# Altium schematic symbol library MCU_ST_STM32U5.SchLib: 162 symbols (part 2 of 5)
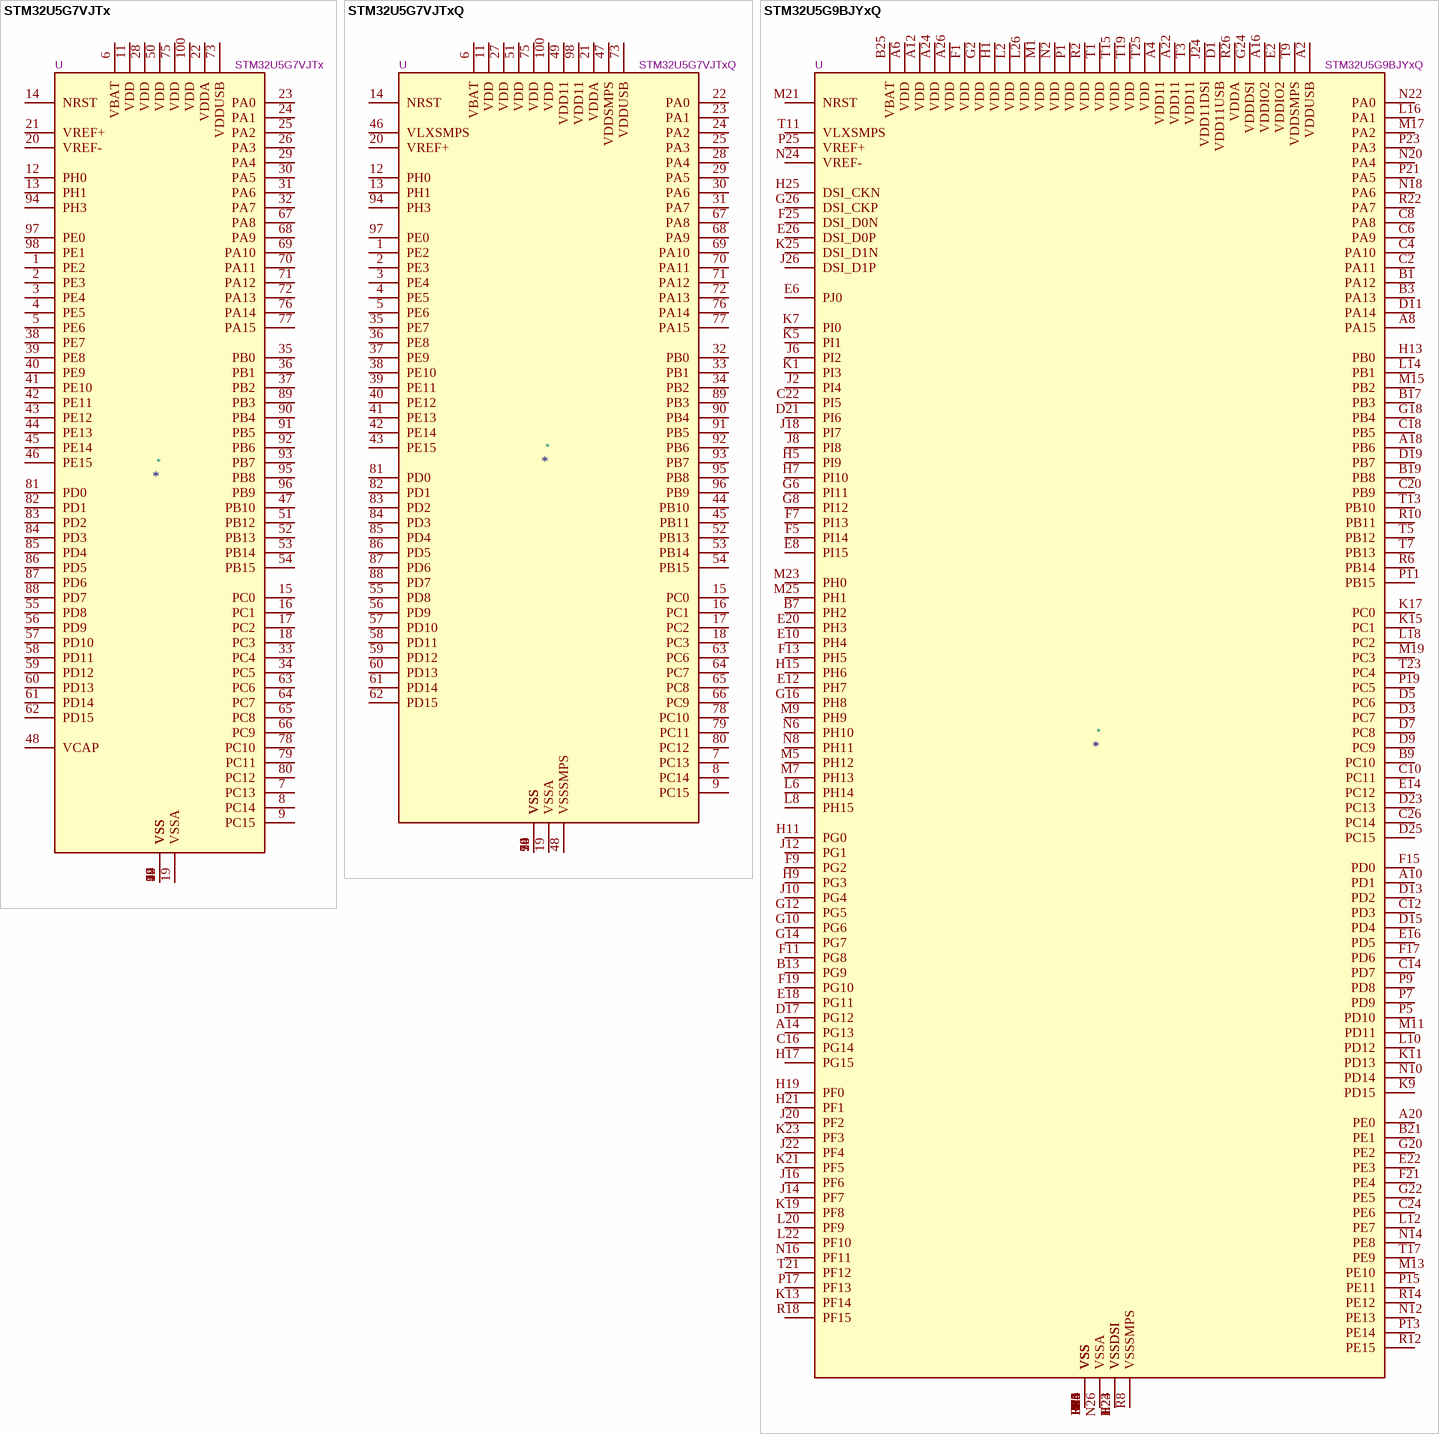
[diagram p41: symbols STM32U5G7VJTx to STM32U5G9BJYxQ]

## STM32U5G7VJTx
designator *  value STM32U5G7VJTx  Reference: U
STMicroelectronics Arm Cortex-M33 MCU, 4096KB flash, 3026KB RAM, 82 GPIO, LQFP100; ki_keywords: Arm Cortex-M33 STM32U5 STM32U5F7/5G7; ki_fp_filters: LQFP*14x14mm*P0.5mm*; Footprint: Package_QFP:LQFP-100_14x14mm_P0.5mm; Datasheet: https://www.st.com/resource/en/datasheet/stm32u5g7vj.pdf; Description_: STMicroelectronics Arm Cortex-M33 MCU, 4096KB flash, 3026KB RAM, 82 GPIO, LQFP100
pins: 1 PE2, 2 PE3, 3 PE4, 4 PE5, 5 PE6, 6 VBAT, 7 PC13, 8 PC14, 9 PC15, 10 VSS, 11 VDD, 12 PH0, 13 PH1, 14 NRST, 15 PC0, 16 PC1, 17 PC2, 18 PC3, 19 VSSA, 20 VREF-, 21 VREF+, 22 VDDA, 23 PA0, 24 PA1, 25 PA2, 26 PA3, 27 VSS, 28 VDD, 29 PA4, 30 PA5, 31 PA6, 32 PA7, 33 PC4, 34 PC5, 35 PB0, 36 PB1, 37 PB2, 38 PE7, 39 PE8, 40 PE9, 41 PE10, 42 PE11, 43 PE12, 44 PE13, 45 PE14, 46 PE15, 47 PB10, 48 VCAP, 49 VSS, 50 VDD, 51 PB12, 52 PB13, 53 PB14, 54 PB15, 55 PD8, 56 PD9, 57 PD10, 58 PD11, 59 PD12, 60 PD13, 61 PD14, 62 PD15, 63 PC6, 64 PC7, 65 PC8, 66 PC9, 67 PA8, 68 PA9, 69 PA10, 70 PA11, 71 PA12, 72 PA13, 73 VDDUSB, 74 VSS, 75 VDD, 76 PA14, 77 PA15, 78 PC10, 79 PC11, 80 PC12, 81 PD0, 82 PD1, 83 PD2, 84 PD3, 85 PD4, 86 PD5, 87 PD6, 88 PD7, 89 PB3, 90 PB4, 91 PB5, 92 PB6, 93 PB7, 94 PH3, 95 PB8, 96 PB9, 97 PE0, 98 PE1, 99 VSS, 100 VDD

## STM32U5G7VJTxQ
designator *  value STM32U5G7VJTxQ  Reference: U
STMicroelectronics Arm Cortex-M33 MCU, 4096KB flash, 3026KB RAM, 79 GPIO, LQFP100; ki_keywords: Arm Cortex-M33 STM32U5 STM32U5F7/5G7; ki_fp_filters: LQFP*14x14mm*P0.5mm*; Footprint: Package_QFP:LQFP-100_14x14mm_P0.5mm; Datasheet: https://www.st.com/resource/en/datasheet/stm32u5g7vj.pdf; Description_: STMicroelectronics Arm Cortex-M33 MCU, 4096KB flash, 3026KB RAM, 79 GPIO, LQFP100
pins: 1 PE2, 2 PE3, 3 PE4, 4 PE5, 5 PE6, 6 VBAT, 7 PC13, 8 PC14, 9 PC15, 10 VSS, 11 VDD, 12 PH0, 13 PH1, 14 NRST, 15 PC0, 16 PC1, 17 PC2, 18 PC3, 19 VSSA, 20 VREF+, 21 VDDA, 22 PA0, 23 PA1, 24 PA2, 25 PA3, 26 VSS, 27 VDD, 28 PA4, 29 PA5, 30 PA6, 31 PA7, 32 PB0, 33 PB1, 34 PB2, 35 PE7, 36 PE8, 37 PE9, 38 PE10, 39 PE11, 40 PE12, 41 PE13, 42 PE14, 43 PE15, 44 PB10, 45 PB11, 46 VLXSMPS, 47 VDDSMPS, 48 VSSSMPS, 49 VDD11, 50 VSS, 51 VDD, 52 PB13, 53 PB14, 54 PB15, 55 PD8, 56 PD9, 57 PD10, 58 PD11, 59 PD12, 60 PD13, 61 PD14, 62 PD15, 63 PC6, 64 PC7, 65 PC8, 66 PC9, 67 PA8, 68 PA9, 69 PA10, 70 PA11, 71 PA12, 72 PA13, 73 VDDUSB, 74 VSS, 75 VDD, 76 PA14, 77 PA15, 78 PC10, 79 PC11, 80 PC12, 81 PD0, 82 PD1, 83 PD2, 84 PD3, 85 PD4, 86 PD5, 87 PD6, 88 PD7, 89 PB3, 90 PB4, 91 PB5, 92 PB6, 93 PB7, 94 PH3, 95 PB8, 96 PB9, 97 PE0, 98 VDD11, 99 VSS, 100 VDD

## STM32U5G9BJYxQ
designator *  value STM32U5G9BJYxQ  Reference: U
STMicroelectronics Arm Cortex-M33 MCU, 4096KB flash, 3026KB RAM, 145 GPIO, WLCSP208; ki_keywords: Arm Cortex-M33 STM32U5 STM32U5F9/5G9; ki_fp_filters: ST*WLCSP*5.8x5.6mm*Layout26x16*P0.35mm*Stagger*; Footprint: Package_CSP:ST_WLCSP-208_5.8x5.6mm_Layout26x16_P0.35mm_Stagger; Datasheet: https://www.st.com/resource/en/datasheet/stm32u5g9bj.pdf; Description_: STMicroelectronics Arm Cortex-M33 MCU, 4096KB flash, 3026KB RAM, 145 GPIO, WLCSP208
pins: A2 VDDUSB, A4 VDD11, A6 VDD, A8 PA15, A10 PD1, A12 VDD, A14 PG13, A16 VDDIO2, A18 PB6, A20 PE0, A22 VDD11, A24 VDD, A26 VDD, B1 PA12, B3 PA13, B5 VSS, B7 PH2, B9 PC10, B11 VSS, B13 PG9, B15 VSS, B17 PB3, B19 PB8, B21 PE1, B23 VSS, B25 VBAT, C2 PA11, C4 PA10, C6 PA9, C8 PA8, C10 PC11, C12 PD3, C14 PD7, C16 PG14, C18 PB5, C20 PB9, C22 PI5, C24 PE6, C26 PC14, D1 VDD11USB, D3 PC7, D5 PC6, D7 PC8, D9 PC9, D11 PA14, D13 PD2, D15 PD4, D17 PG12, D19 PB7, D21 PI6, D23 PC13, D25 PC15, E2 VDDIO2, E4 VSS, E6 PJ0, E8 PI15, E10 PH4, E12 PH7, E14 PC12, E16 PD5, E18 PG11, E20 PH3, E22 PE3, E24 VSSDSI, E26 DSI_D0P, F1 VDD, F3 VSS, F5 PI14, F7 PI13, F9 PG2, F11 PG8, F13 PH5, F15 PD0, F17 PD6, F19 PG10, F21 PE4, F23 VSSDSI, F25 DSI_D0N, G2 VDD, G4 VSS, G6 PI11, G8 PI12, G10 PG6, G12 PG5, G14 PG7, G16 PH8, G18 PB4, G20 PE2, G22 PE5, G24 VDDDSI, G26 DSI_CKP, H1 VDD, H3 VSS, H5 PI9, H7 PI10, H9 PG3, H11 PG0, H13 PB0, H15 PH6, H17 PG15, H19 PF0, H21 PF1, H23 VSSDSI, H25 DSI_CKN, J2 PI4, J4 VSS, J6 PI2, J8 PI8, J10 PG4, J12 PG1, J14 PF7, J16 PF6, J18 PI7, J20 PF2, J22 PF4, J24 VDD11DSI, J26 DSI_D1P, K1 PI3, K3 VSS, K5 PI1, K7 PI0, K9 PD15, K11 PD13, K13 PF14, K15 PC1, K17 PC0, K19 PF8, K21 PF5, K23 PF3, K25 DSI_D1N, L2 VDD, L4 VSS, L6 PH14, L8 PH15, L10 PD12, L12 PE7, L14 PB1, L16 PA1, L18 PC2, L20 PF9, L22 PF10, L24 VSS, L26 VDD, M1 VDD, M3 VSS, M5 PH12, M7 PH13, M9 PH9, M11 PD11, M13 PE10, M15 PB2, M17 PA2, M19 PC3, M21 NRST, M23 PH0, M25 PH1, N2 VDD, N4 VSS, N6 PH10, N8 PH11, N10 PD14, N12 PE13, N14 PE8, N16 PF11, N18 PA6, N20 PA4, N22 PA0, N24 VREF-, N26 VSSA, P1 VDD, P3 VSS, P5 PD10, P7 PD9, P9 PD8, P11 PB15, P13 PE14, P15 PE11, P17 PF13, P19 PC5, P21 PA5, P23 PA3, P25 VREF+, R2 VDD, R4 VSS, R6 PB14, R8 VSSSMPS, R10 PB11, R12 PE15, R14 PE12, R16 VSS, R18 PF15, R20 VSS, R22 PA7, R24 VSS, R26 VDDA, T1 VDD, T3 VDD11, T5 PB12, T7 PB13, T9 VDDSMPS, T11 VLXSMPS, T13 PB10, T15 VDD, T17 PE9, T19 VDD, T21 PF12, T23 PC4, T25 VDD

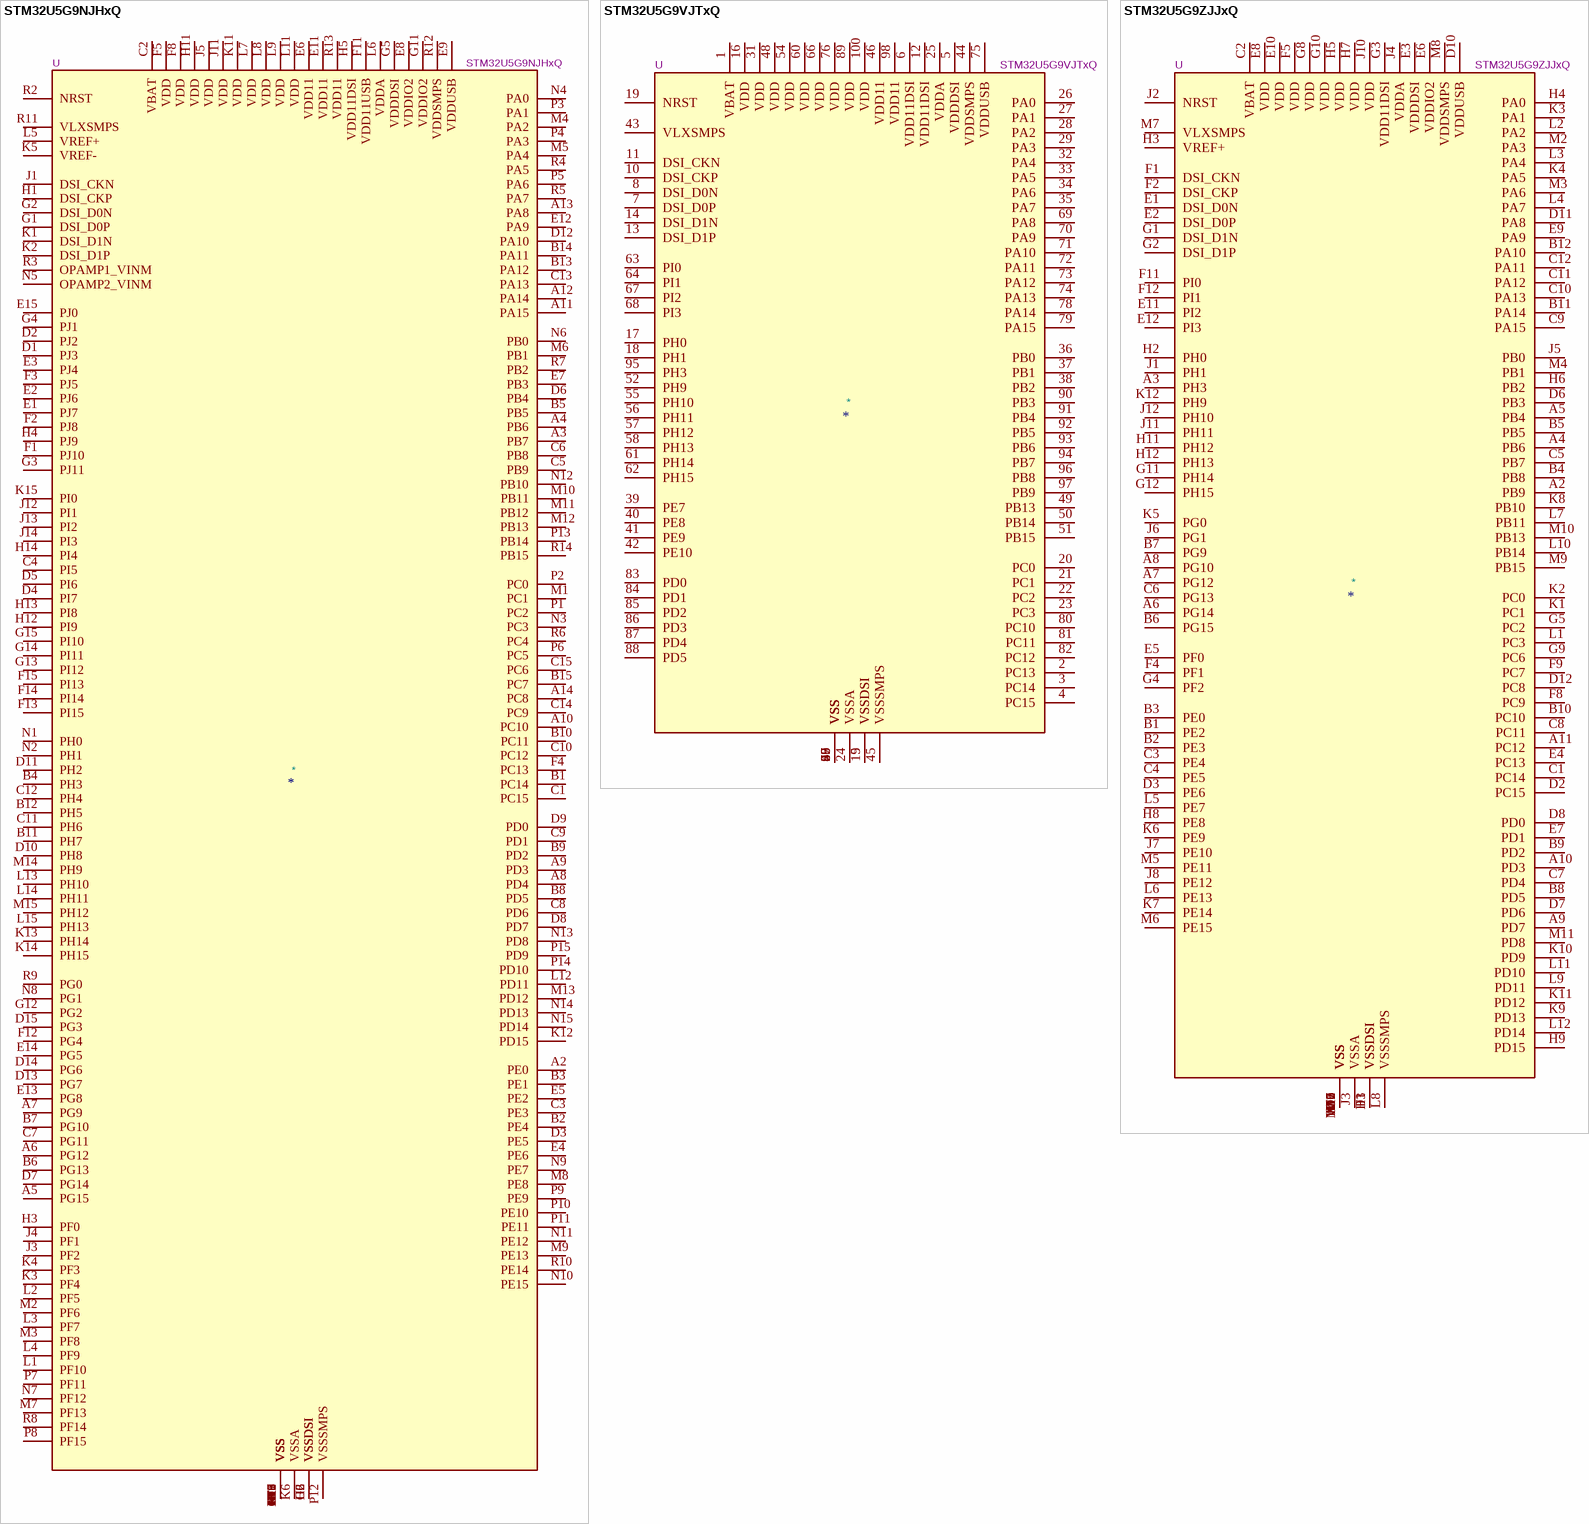
[diagram p11: symbols STM32U5G9NJHxQ to STM32U5G9ZJJxQ]

## STM32U5G9NJHxQ
designator *  value STM32U5G9NJHxQ  Reference: U
STMicroelectronics Arm Cortex-M33 MCU, 4096KB flash, 3026KB RAM, 156 GPIO, TFBGA216; ki_keywords: Arm Cortex-M33 STM32U5 STM32U5F9/5G9; ki_fp_filters: TFBGA*13x13mm*Layout15x15*P0.8mm*; Footprint: Package_BGA:TFBGA-216_13x13mm_Layout15x15_P0.8mm; Datasheet: https://www.st.com/resource/en/datasheet/stm32u5g9nj.pdf; Description_: STMicroelectronics Arm Cortex-M33 MCU, 4096KB flash, 3026KB RAM, 156 GPIO, TFBGA216
pins: A1 VSS, A2 PE0, A3 PB7, A4 PB6, A5 PG15, A6 PG12, A7 PG9, A8 PD4, A9 PD3, A10 PC10, A11 PA15, A12 PA14, A13 PA8, A14 PC8, A15 VSS, B1 PC14, B2 PE4, B3 PE1, B4 PH3, B5 PB5, B6 PG13, B7 PG10, B8 PD5, B9 PD2, B10 PC11, B11 PH7, B12 PH5, B13 PA12, B14 PA11, B15 PC7, C1 PC15, C2 VBAT, C3 PE3, C4 PI5, C5 PB9, C6 PB8, C7 PG11, C8 PD6, C9 PD1, C10 PC12, C11 PH6, C12 PH4, C13 PA13, C14 PC9, C15 PC6, D1 PJ3, D2 PJ2, D3 PE5, D4 PI7, D5 PI6, D6 PB4, D7 PG14, D8 PD7, D9 PD0, D10 PH8, D11 PH2, D12 PA10, D13 PG7, D14 PG6, D15 PG3, E1 PJ7, E2 PJ6, E3 PJ4, E4 PE6, E5 PE2, E6 VDD11, E7 PB3, E8 VDDIO2, E9 VDDUSB, E10 VSS, E11 VDD11, E12 PA9, E13 PG8, E14 PG5, E15 PJ0, F1 PJ10, F2 PJ8, F3 PJ5, F4 PC13, F5 VDD, F6 VSS, F7 VSS, F8 VDD, F9 VSS, F10 VSS, F11 VDD11USB, F12 PG4, F13 PI15, F14 PI14, F15 PI13, G1 DSI_D0P, G2 DSI_D0N, G3 PJ11, G4 PJ1, G5 VDDDSI, G6 VSSDSI, G10 VSS, G11 VDDIO2, G12 PG2, G13 PI12, G14 PI11, G15 PI10, H1 DSI_CKP, H2 VSSDSI, H3 PF0, H4 PJ9, H5 VDD11DSI, H6 VSSDSI, H10 VSS, H11 VDD, H12 PI9, H13 PI8, H14 PI4, H15 VSS, J1 DSI_CKN, J2 VSSDSI, J3 PF2, J4 PF1, J5 VDD, J6 VSS, J10 VSS, J11 VDD, J12 PI1, J13 PI2, J14 PI3, J15 VSS, K1 DSI_D1N, K2 DSI_D1P, K3 PF4, K4 PF3, K5 VREF-, K6 VSSA, K7 VSS, K8 VSS, K9 VSS, K10 VSS, K11 VDD, K12 PD15, K13 PH14, K14 PH15, K15 PI0, L1 PF10, L2 PF5, L3 PF7, L4 PF9, L5 VREF+, L6 VDDA, L7 VDD, L8 VDD, L9 VDD, L10 VSS, L11 VDD, L12 PD11, L13 PH10, L14 PH11, L15 PH13, M1 PC1, M2 PF6, M3 PF8, M4 PA2, M5 PA4, M6 PB1, M7 PF13, M8 PE8, M9 PE13, M10 PB11, M11 PB12, M12 PB13, M13 PD12, M14 PH9, M15 PH12, N1 PH0, N2 PH1, N3 PC3, N4 PA0, N5 OPAMP2_VINM, N6 PB0, N7 PF12, N8 PG1, N9 PE7, N10 PE15, N11 PE12, N12 PB10, N13 PD8, N14 PD13, N15 PD14, P1 PC2, P2 PC0, P3 PA1, P4 PA3, P5 PA6, P6 PC5, P7 PF11, P8 PF15, P9 PE9, P10 PE10, P11 PE11, P12 VSSSMPS, P13 PB14, P14 PD10, P15 PD9, R1 VSS, R2 NRST, R3 OPAMP1_VINM, R4 PA5, R5 PA7, R6 PC4, R7 PB2, R8 PF14, R9 PG0, R10 PE14, R11 VLXSMPS, R12 VDDSMPS, R13 VDD11, R14 PB15, R15 VSS

## STM32U5G9VJTxQ
designator *  value STM32U5G9VJTxQ  Reference: U
STMicroelectronics Arm Cortex-M33 MCU, 4096KB flash, 3026KB RAM, 63 GPIO, LQFP100; ki_keywords: Arm Cortex-M33 STM32U5 STM32U5F9/5G9; ki_fp_filters: LQFP*14x14mm*P0.5mm*; Footprint: Package_QFP:LQFP-100_14x14mm_P0.5mm; Datasheet: https://www.st.com/resource/en/datasheet/stm32u5g9vj.pdf; Description_: STMicroelectronics Arm Cortex-M33 MCU, 4096KB flash, 3026KB RAM, 63 GPIO, LQFP100
pins: 1 VBAT, 2 PC13, 3 PC14, 4 PC15, 5 VDDDSI, 6 VDD11DSI, 7 DSI_D0P, 8 DSI_D0N, 9 VSSDSI, 10 DSI_CKP, 11 DSI_CKN, 12 VDD11DSI, 13 DSI_D1P, 14 DSI_D1N, 15 VSSDSI, 16 VDD, 17 PH0, 18 PH1, 19 NRST, 20 PC0, 21 PC1, 22 PC2, 23 PC3, 24 VSSA, 25 VDDA, 26 PA0, 27 PA1, 28 PA2, 29 PA3, 30 VSS, 31 VDD, 32 PA4, 33 PA5, 34 PA6, 35 PA7, 36 PB0, 37 PB1, 38 PB2, 39 PE7, 40 PE8, 41 PE9, 42 PE10, 43 VLXSMPS, 44 VDDSMPS, 45 VSSSMPS, 46 VDD11, 47 VSS, 48 VDD, 49 PB13, 50 PB14, 51 PB15, 52 PH9, 53 VSS, 54 VDD, 55 PH10, 56 PH11, 57 PH12, 58 PH13, 59 VSS, 60 VDD, 61 PH14, 62 PH15, 63 PI0, 64 PI1, 65 VSS, 66 VDD, 67 PI2, 68 PI3, 69 PA8, 70 PA9, 71 PA10, 72 PA11, 73 PA12, 74 PA13, 75 VDDUSB, 76 VDD, 77 VSS, 78 PA14, 79 PA15, 80 PC10, 81 PC11, 82 PC12, 83 PD0, 84 PD1, 85 PD2, 86 PD3, 87 PD4, 88 PD5, 89 VDD, 90 PB3, 91 PB4, 92 PB5, 93 PB6, 94 PB7, 95 PH3, 96 PB8, 97 PB9, 98 VDD11, 99 VSS, 100 VDD

## STM32U5G9ZJJxQ
designator *  value STM32U5G9ZJJxQ  Reference: U
STMicroelectronics Arm Cortex-M33 MCU, 4096KB flash, 3026KB RAM, 101 GPIO, UFBGA144; ki_keywords: Arm Cortex-M33 STM32U5 STM32U5F9/5G9; ki_fp_filters: UFBGA*10x10mm*Layout12x12*P0.8mm*; Footprint: Package_BGA:UFBGA-144_10x10mm_Layout12x12_P0.8mm; Datasheet: https://www.st.com/resource/en/datasheet/stm32u5g9zj.pdf; Description_: STMicroelectronics Arm Cortex-M33 MCU, 4096KB flash, 3026KB RAM, 101 GPIO, UFBGA144
pins: A1 VSS, A2 PB9, A3 PH3, A4 PB6, A5 PB4, A6 PG14, A7 PG12, A8 PG10, A9 PD7, A10 PD3, A11 PC12, A12 VSS, B1 PE2, B2 PE3, B3 PE0, B4 PB8, B5 PB5, B6 PG15, B7 PG9, B8 PD5, B9 PD2, B10 PC10, B11 PA14, B12 PA10, C1 PC14, C2 VBAT, C3 PE4, C4 PE5, C5 PB7, C6 PG13, C7 PD4, C8 PC11, C9 PA15, C10 PA13, C11 PA12, C12 PA11, D1 VSSDSI, D2 PC15, D3 PE6, D5 VSS, D6 PB3, D7 PD6, D8 PD0, D9 VSS, D10 VDDUSB, D11 PA8, D12 PC8, E1 DSI_D0N, E2 DSI_D0P, E3 VDDDSI, E4 PC13, E5 PF0, E6 VDDIO2, E7 PD1, E8 VDD, E9 PA9, E10 VDD, E11 PI2, E12 PI3, F1 DSI_CKN, F2 DSI_CKP, F3 VSSDSI, F4 PF1, F5 VDD, F6 VSS, F7 VSS, F8 PC9, F9 PC7, F10 VSS, F11 PI0, F12 PI1, G1 DSI_D1N, G2 DSI_D1P, G3 VDD11DSI, G4 PF2, G5 PC2, G6 VSS, G7 VSS, G8 VDD, G9 PC6, G10 VDD, G11 PH14, G12 PH15, H1 VSSDSI, H2 PH0, H3 VREF+, H4 PA0, H5 VDD, H6 PB2, H7 VDD, H8 PE8, H9 PD15, H10 VSS, H11 PH12, H12 PH13, J1 PH1, J2 NRST, J3 VSSA, J4 VDDA, J5 PB0, J6 PG1, J7 PE10, J8 PE12, J10 VDD, J11 PH11, J12 PH10, K1 PC1, K2 PC0, K3 PA1, K4 PA5, K5 PG0, K6 PE9, K7 PE14, K8 PB10, K9 PD13, K10 PD9, K11 PD12, K12 PH9, L1 PC3, L2 PA2, L3 PA4, L4 PA7, L5 PE7, L6 PE13, L7 PB11, L8 VSSSMPS, L9 PD11, L10 PB14, L11 PD10, L12 PD14, M1 VSS, M2 PA3, M3 PA6, M4 PB1, M5 PE11, M6 PE15, M7 VLXSMPS, M8 VDDSMPS, M9 PB15, M10 PB13, M11 PD8, M12 VSS

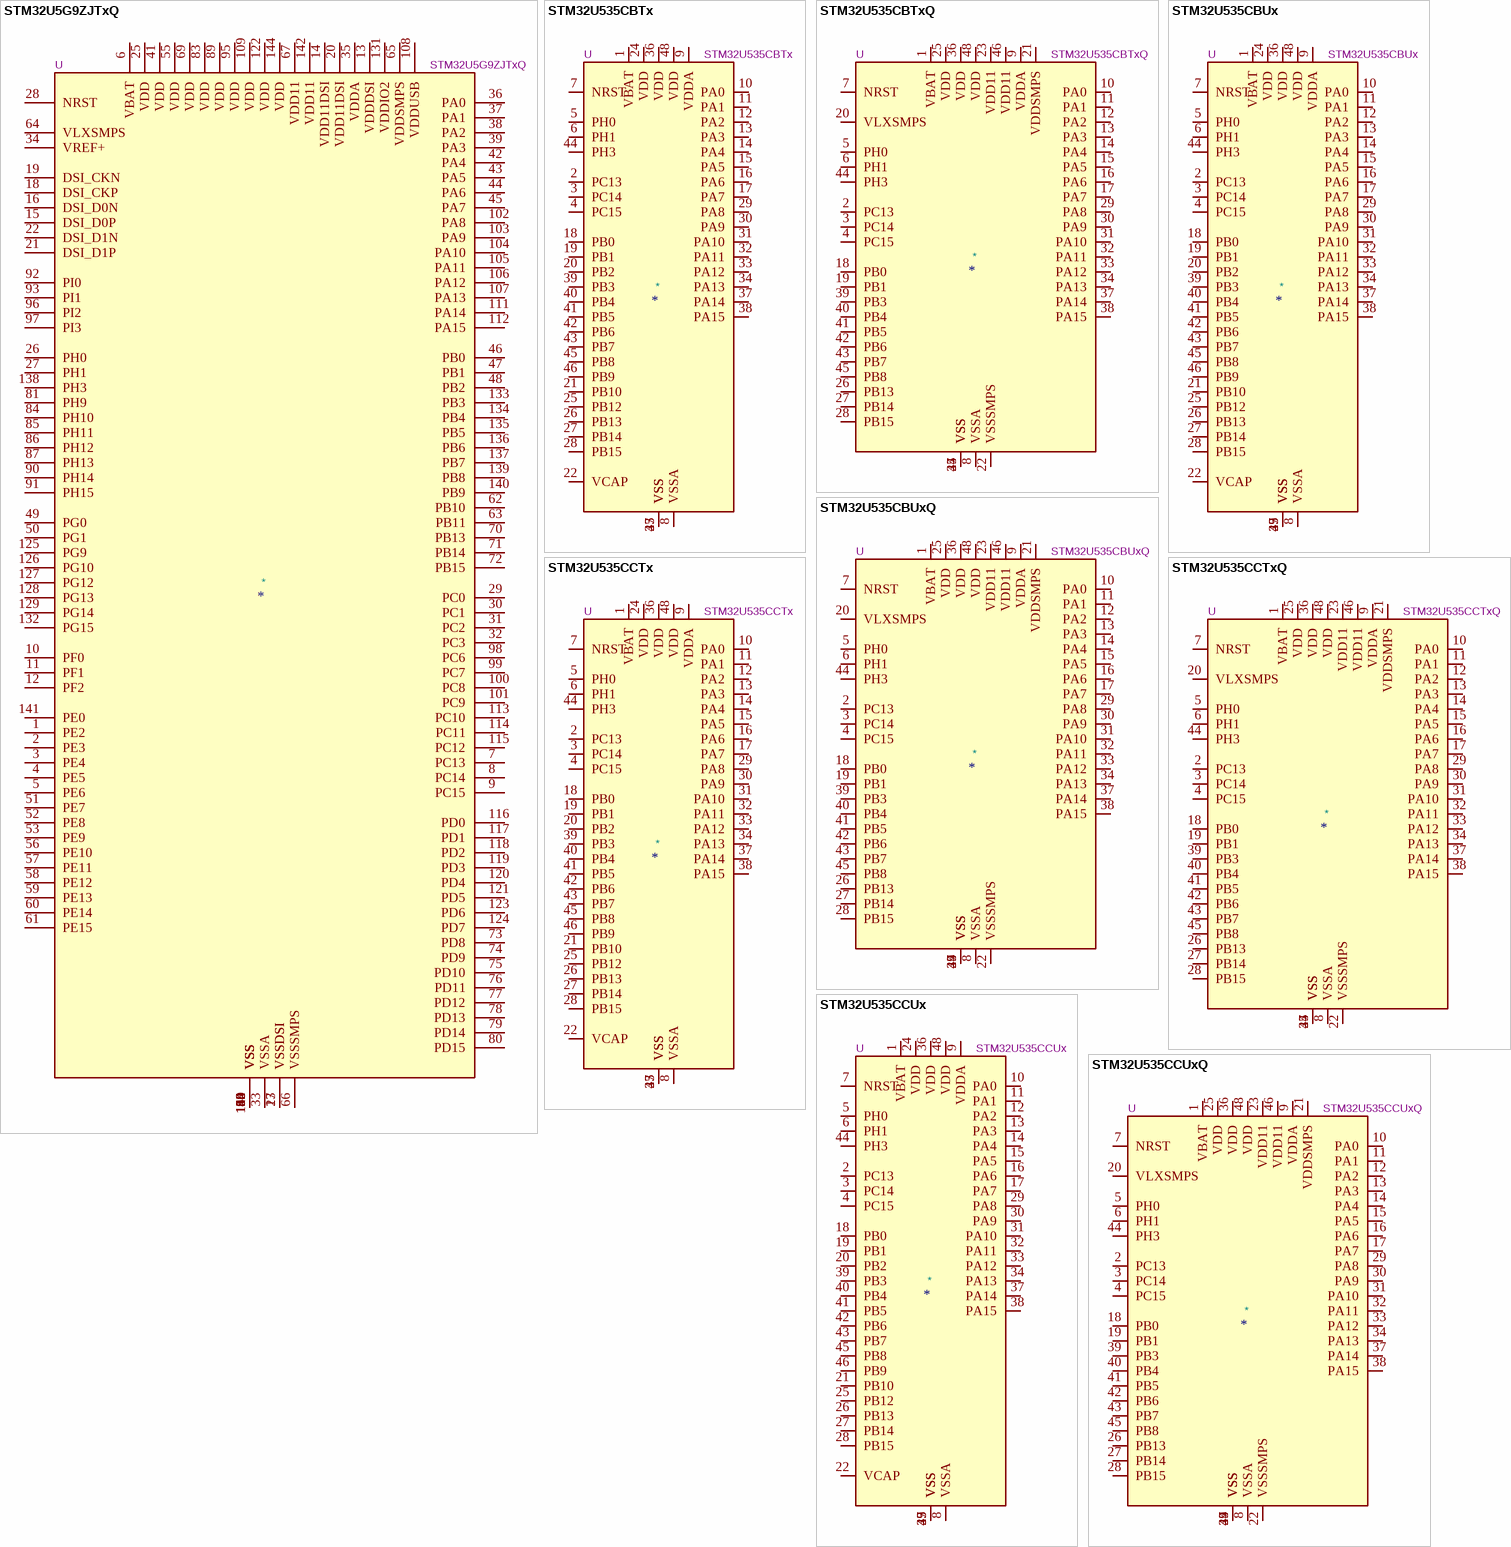
[diagram p12: symbols STM32U5G9ZJTxQ to STM32U535CCUxQ]

## STM32U5G9ZJTxQ
designator *  value STM32U5G9ZJTxQ  Reference: U
STMicroelectronics Arm Cortex-M33 MCU, 4096KB flash, 3026KB RAM, 101 GPIO, LQFP144; ki_keywords: Arm Cortex-M33 STM32U5 STM32U5F9/5G9; ki_fp_filters: LQFP*20x20mm*P0.5mm*; Footprint: Package_QFP:LQFP-144_20x20mm_P0.5mm; Datasheet: https://www.st.com/resource/en/datasheet/stm32u5g9zj.pdf; Description_: STMicroelectronics Arm Cortex-M33 MCU, 4096KB flash, 3026KB RAM, 101 GPIO, LQFP144
pins: 1 PE2, 2 PE3, 3 PE4, 4 PE5, 5 PE6, 6 VBAT, 7 PC13, 8 PC14, 9 PC15, 10 PF0, 11 PF1, 12 PF2, 13 VDDDSI, 14 VDD11DSI, 15 DSI_D0P, 16 DSI_D0N, 17 VSSDSI, 18 DSI_CKP, 19 DSI_CKN, 20 VDD11DSI, 21 DSI_D1P, 22 DSI_D1N, 23 VSSDSI, 24 VSS, 25 VDD, 26 PH0, 27 PH1, 28 NRST, 29 PC0, 30 PC1, 31 PC2, 32 PC3, 33 VSSA, 34 VREF+, 35 VDDA, 36 PA0, 37 PA1, 38 PA2, 39 PA3, 40 VSS, 41 VDD, 42 PA4, 43 PA5, 44 PA6, 45 PA7, 46 PB0, 47 PB1, 48 PB2, 49 PG0, 50 PG1, 51 PE7, 52 PE8, 53 PE9, 54 VSS, 55 VDD, 56 PE10, 57 PE11, 58 PE12, 59 PE13, 60 PE14, 61 PE15, 62 PB10, 63 PB11, 64 VLXSMPS, 65 VDDSMPS, 66 VSSSMPS, 67 VDD11, 68 VSS, 69 VDD, 70 PB13, 71 PB14, 72 PB15, 73 PD8, 74 PD9, 75 PD10, 76 PD11, 77 PD12, 78 PD13, 79 PD14, 80 PD15, 81 PH9, 82 VSS, 83 VDD, 84 PH10, 85 PH11, 86 PH12, 87 PH13, 88 VSS, 89 VDD, 90 PH14, 91 PH15, 92 PI0, 93 PI1, 94 VSS, 95 VDD, 96 PI2, 97 PI3, 98 PC6, 99 PC7, 100 PC8, 101 PC9, 102 PA8, 103 PA9, 104 PA10, 105 PA11, 106 PA12, 107 PA13, 108 VDDUSB, 109 VDD, 110 VSS, 111 PA14, 112 PA15, 113 PC10, 114 PC11, 115 PC12, 116 PD0, 117 PD1, 118 PD2, 119 PD3, 120 PD4, 121 PD5, 122 VDD, 123 PD6, 124 PD7, 125 PG9, 126 PG10, 127 PG12, 128 PG13, 129 PG14, 130 VSS, 131 VDDIO2, 132 PG15, 133 PB3, 134 PB4, 135 PB5, 136 PB6, 137 PB7, 138 PH3, 139 PB8, 140 PB9, 141 PE0, 142 VDD11, 143 VSS, 144 VDD

## STM32U535CBTx
designator *  value STM32U535CBTx  Reference: U
STMicroelectronics Arm Cortex-M33 MCU, 128KB flash, 274KB RAM, 37 GPIO, LQFP48; ki_keywords: Arm Cortex-M33 STM32U5 STM32U5x5; ki_fp_filters: LQFP*7x7mm*P0.5mm*; Footprint: Package_QFP:LQFP-48_7x7mm_P0.5mm; Datasheet: https://www.st.com/resource/en/datasheet/stm32u535cb.pdf; Description_: STMicroelectronics Arm Cortex-M33 MCU, 128KB flash, 274KB RAM, 37 GPIO, LQFP48
pins: 1 VBAT, 2 PC13, 3 PC14, 4 PC15, 5 PH0, 6 PH1, 7 NRST, 8 VSSA, 9 VDDA, 10 PA0, 11 PA1, 12 PA2, 13 PA3, 14 PA4, 15 PA5, 16 PA6, 17 PA7, 18 PB0, 19 PB1, 20 PB2, 21 PB10, 22 VCAP, 23 VSS, 24 VDD, 25 PB12, 26 PB13, 27 PB14, 28 PB15, 29 PA8, 30 PA9, 31 PA10, 32 PA11, 33 PA12, 34 PA13, 35 VSS, 36 VDD, 37 PA14, 38 PA15, 39 PB3, 40 PB4, 41 PB5, 42 PB6, 43 PB7, 44 PH3, 45 PB8, 46 PB9, 47 VSS, 48 VDD

## STM32U535CBTxQ
designator *  value STM32U535CBTxQ  Reference: U
STMicroelectronics Arm Cortex-M33 MCU, 128KB flash, 274KB RAM, 33 GPIO, LQFP48; ki_keywords: Arm Cortex-M33 STM32U5 STM32U5x5; ki_fp_filters: LQFP*7x7mm*P0.5mm*; Footprint: Package_QFP:LQFP-48_7x7mm_P0.5mm; Datasheet: https://www.st.com/resource/en/datasheet/stm32u535cb.pdf; Description_: STMicroelectronics Arm Cortex-M33 MCU, 128KB flash, 274KB RAM, 33 GPIO, LQFP48
pins: 1 VBAT, 2 PC13, 3 PC14, 4 PC15, 5 PH0, 6 PH1, 7 NRST, 8 VSSA, 9 VDDA, 10 PA0, 11 PA1, 12 PA2, 13 PA3, 14 PA4, 15 PA5, 16 PA6, 17 PA7, 18 PB0, 19 PB1, 20 VLXSMPS, 21 VDDSMPS, 22 VSSSMPS, 23 VDD11, 24 VSS, 25 VDD, 26 PB13, 27 PB14, 28 PB15, 29 PA8, 30 PA9, 31 PA10, 32 PA11, 33 PA12, 34 PA13, 35 VSS, 36 VDD, 37 PA14, 38 PA15, 39 PB3, 40 PB4, 41 PB5, 42 PB6, 43 PB7, 44 PH3, 45 PB8, 46 VDD11, 47 VSS, 48 VDD

## STM32U535CBUx
designator *  value STM32U535CBUx  Reference: U
STMicroelectronics Arm Cortex-M33 MCU, 128KB flash, 274KB RAM, 37 GPIO, UFQFPN48; ki_keywords: Arm Cortex-M33 STM32U5 STM32U5x5; ki_fp_filters: QFN*1EP*7x7mm*P0.5mm*; Footprint: Package_DFN_QFN:QFN-48-1EP_7x7mm_P0.5mm_EP5.6x5.6mm; Datasheet: https://www.st.com/resource/en/datasheet/stm32u535cb.pdf; Description_: STMicroelectronics Arm Cortex-M33 MCU, 128KB flash, 274KB RAM, 37 GPIO, UFQFPN48
pins: 1 VBAT, 2 PC13, 3 PC14, 4 PC15, 5 PH0, 6 PH1, 7 NRST, 8 VSSA, 9 VDDA, 10 PA0, 11 PA1, 12 PA2, 13 PA3, 14 PA4, 15 PA5, 16 PA6, 17 PA7, 18 PB0, 19 PB1, 20 PB2, 21 PB10, 22 VCAP, 23 VSS, 24 VDD, 25 PB12, 26 PB13, 27 PB14, 28 PB15, 29 PA8, 30 PA9, 31 PA10, 32 PA11, 33 PA12, 34 PA13, 35 VSS, 36 VDD, 37 PA14, 38 PA15, 39 PB3, 40 PB4, 41 PB5, 42 PB6, 43 PB7, 44 PH3, 45 PB8, 46 PB9, 47 VSS, 48 VDD, 49 VSS

## STM32U535CBUxQ
designator *  value STM32U535CBUxQ  Reference: U
STMicroelectronics Arm Cortex-M33 MCU, 128KB flash, 274KB RAM, 33 GPIO, UFQFPN48; ki_keywords: Arm Cortex-M33 STM32U5 STM32U5x5; ki_fp_filters: QFN*1EP*7x7mm*P0.5mm*; Footprint: Package_DFN_QFN:QFN-48-1EP_7x7mm_P0.5mm_EP5.6x5.6mm; Datasheet: https://www.st.com/resource/en/datasheet/stm32u535cb.pdf; Description_: STMicroelectronics Arm Cortex-M33 MCU, 128KB flash, 274KB RAM, 33 GPIO, UFQFPN48
pins: 1 VBAT, 2 PC13, 3 PC14, 4 PC15, 5 PH0, 6 PH1, 7 NRST, 8 VSSA, 9 VDDA, 10 PA0, 11 PA1, 12 PA2, 13 PA3, 14 PA4, 15 PA5, 16 PA6, 17 PA7, 18 PB0, 19 PB1, 20 VLXSMPS, 21 VDDSMPS, 22 VSSSMPS, 23 VDD11, 24 VSS, 25 VDD, 26 PB13, 27 PB14, 28 PB15, 29 PA8, 30 PA9, 31 PA10, 32 PA11, 33 PA12, 34 PA13, 35 VSS, 36 VDD, 37 PA14, 38 PA15, 39 PB3, 40 PB4, 41 PB5, 42 PB6, 43 PB7, 44 PH3, 45 PB8, 46 VDD11, 47 VSS, 48 VDD, 49 VSS

## STM32U535CCTx
designator *  value STM32U535CCTx  Reference: U
STMicroelectronics Arm Cortex-M33 MCU, 256KB flash, 274KB RAM, 37 GPIO, LQFP48; ki_keywords: Arm Cortex-M33 STM32U5 STM32U5x5; ki_fp_filters: LQFP*7x7mm*P0.5mm*; Footprint: Package_QFP:LQFP-48_7x7mm_P0.5mm; Datasheet: https://www.st.com/resource/en/datasheet/stm32u535cc.pdf; Description_: STMicroelectronics Arm Cortex-M33 MCU, 256KB flash, 274KB RAM, 37 GPIO, LQFP48
pins: 1 VBAT, 2 PC13, 3 PC14, 4 PC15, 5 PH0, 6 PH1, 7 NRST, 8 VSSA, 9 VDDA, 10 PA0, 11 PA1, 12 PA2, 13 PA3, 14 PA4, 15 PA5, 16 PA6, 17 PA7, 18 PB0, 19 PB1, 20 PB2, 21 PB10, 22 VCAP, 23 VSS, 24 VDD, 25 PB12, 26 PB13, 27 PB14, 28 PB15, 29 PA8, 30 PA9, 31 PA10, 32 PA11, 33 PA12, 34 PA13, 35 VSS, 36 VDD, 37 PA14, 38 PA15, 39 PB3, 40 PB4, 41 PB5, 42 PB6, 43 PB7, 44 PH3, 45 PB8, 46 PB9, 47 VSS, 48 VDD

## STM32U535CCTxQ
designator *  value STM32U535CCTxQ  Reference: U
STMicroelectronics Arm Cortex-M33 MCU, 256KB flash, 274KB RAM, 33 GPIO, LQFP48; ki_keywords: Arm Cortex-M33 STM32U5 STM32U5x5; ki_fp_filters: LQFP*7x7mm*P0.5mm*; Footprint: Package_QFP:LQFP-48_7x7mm_P0.5mm; Datasheet: https://www.st.com/resource/en/datasheet/stm32u535cc.pdf; Description_: STMicroelectronics Arm Cortex-M33 MCU, 256KB flash, 274KB RAM, 33 GPIO, LQFP48
pins: 1 VBAT, 2 PC13, 3 PC14, 4 PC15, 5 PH0, 6 PH1, 7 NRST, 8 VSSA, 9 VDDA, 10 PA0, 11 PA1, 12 PA2, 13 PA3, 14 PA4, 15 PA5, 16 PA6, 17 PA7, 18 PB0, 19 PB1, 20 VLXSMPS, 21 VDDSMPS, 22 VSSSMPS, 23 VDD11, 24 VSS, 25 VDD, 26 PB13, 27 PB14, 28 PB15, 29 PA8, 30 PA9, 31 PA10, 32 PA11, 33 PA12, 34 PA13, 35 VSS, 36 VDD, 37 PA14, 38 PA15, 39 PB3, 40 PB4, 41 PB5, 42 PB6, 43 PB7, 44 PH3, 45 PB8, 46 VDD11, 47 VSS, 48 VDD

## STM32U535CCUx
designator *  value STM32U535CCUx  Reference: U
STMicroelectronics Arm Cortex-M33 MCU, 256KB flash, 274KB RAM, 37 GPIO, UFQFPN48; ki_keywords: Arm Cortex-M33 STM32U5 STM32U5x5; ki_fp_filters: QFN*1EP*7x7mm*P0.5mm*; Footprint: Package_DFN_QFN:QFN-48-1EP_7x7mm_P0.5mm_EP5.6x5.6mm; Datasheet: https://www.st.com/resource/en/datasheet/stm32u535cc.pdf; Description_: STMicroelectronics Arm Cortex-M33 MCU, 256KB flash, 274KB RAM, 37 GPIO, UFQFPN48
pins: 1 VBAT, 2 PC13, 3 PC14, 4 PC15, 5 PH0, 6 PH1, 7 NRST, 8 VSSA, 9 VDDA, 10 PA0, 11 PA1, 12 PA2, 13 PA3, 14 PA4, 15 PA5, 16 PA6, 17 PA7, 18 PB0, 19 PB1, 20 PB2, 21 PB10, 22 VCAP, 23 VSS, 24 VDD, 25 PB12, 26 PB13, 27 PB14, 28 PB15, 29 PA8, 30 PA9, 31 PA10, 32 PA11, 33 PA12, 34 PA13, 35 VSS, 36 VDD, 37 PA14, 38 PA15, 39 PB3, 40 PB4, 41 PB5, 42 PB6, 43 PB7, 44 PH3, 45 PB8, 46 PB9, 47 VSS, 48 VDD, 49 VSS

## STM32U535CCUxQ
designator *  value STM32U535CCUxQ  Reference: U
STMicroelectronics Arm Cortex-M33 MCU, 256KB flash, 274KB RAM, 33 GPIO, UFQFPN48; ki_keywords: Arm Cortex-M33 STM32U5 STM32U5x5; ki_fp_filters: QFN*1EP*7x7mm*P0.5mm*; Footprint: Package_DFN_QFN:QFN-48-1EP_7x7mm_P0.5mm_EP5.6x5.6mm; Datasheet: https://www.st.com/resource/en/datasheet/stm32u535cc.pdf; Description_: STMicroelectronics Arm Cortex-M33 MCU, 256KB flash, 274KB RAM, 33 GPIO, UFQFPN48
pins: 1 VBAT, 2 PC13, 3 PC14, 4 PC15, 5 PH0, 6 PH1, 7 NRST, 8 VSSA, 9 VDDA, 10 PA0, 11 PA1, 12 PA2, 13 PA3, 14 PA4, 15 PA5, 16 PA6, 17 PA7, 18 PB0, 19 PB1, 20 VLXSMPS, 21 VDDSMPS, 22 VSSSMPS, 23 VDD11, 24 VSS, 25 VDD, 26 PB13, 27 PB14, 28 PB15, 29 PA8, 30 PA9, 31 PA10, 32 PA11, 33 PA12, 34 PA13, 35 VSS, 36 VDD, 37 PA14, 38 PA15, 39 PB3, 40 PB4, 41 PB5, 42 PB6, 43 PB7, 44 PH3, 45 PB8, 46 VDD11, 47 VSS, 48 VDD, 49 VSS

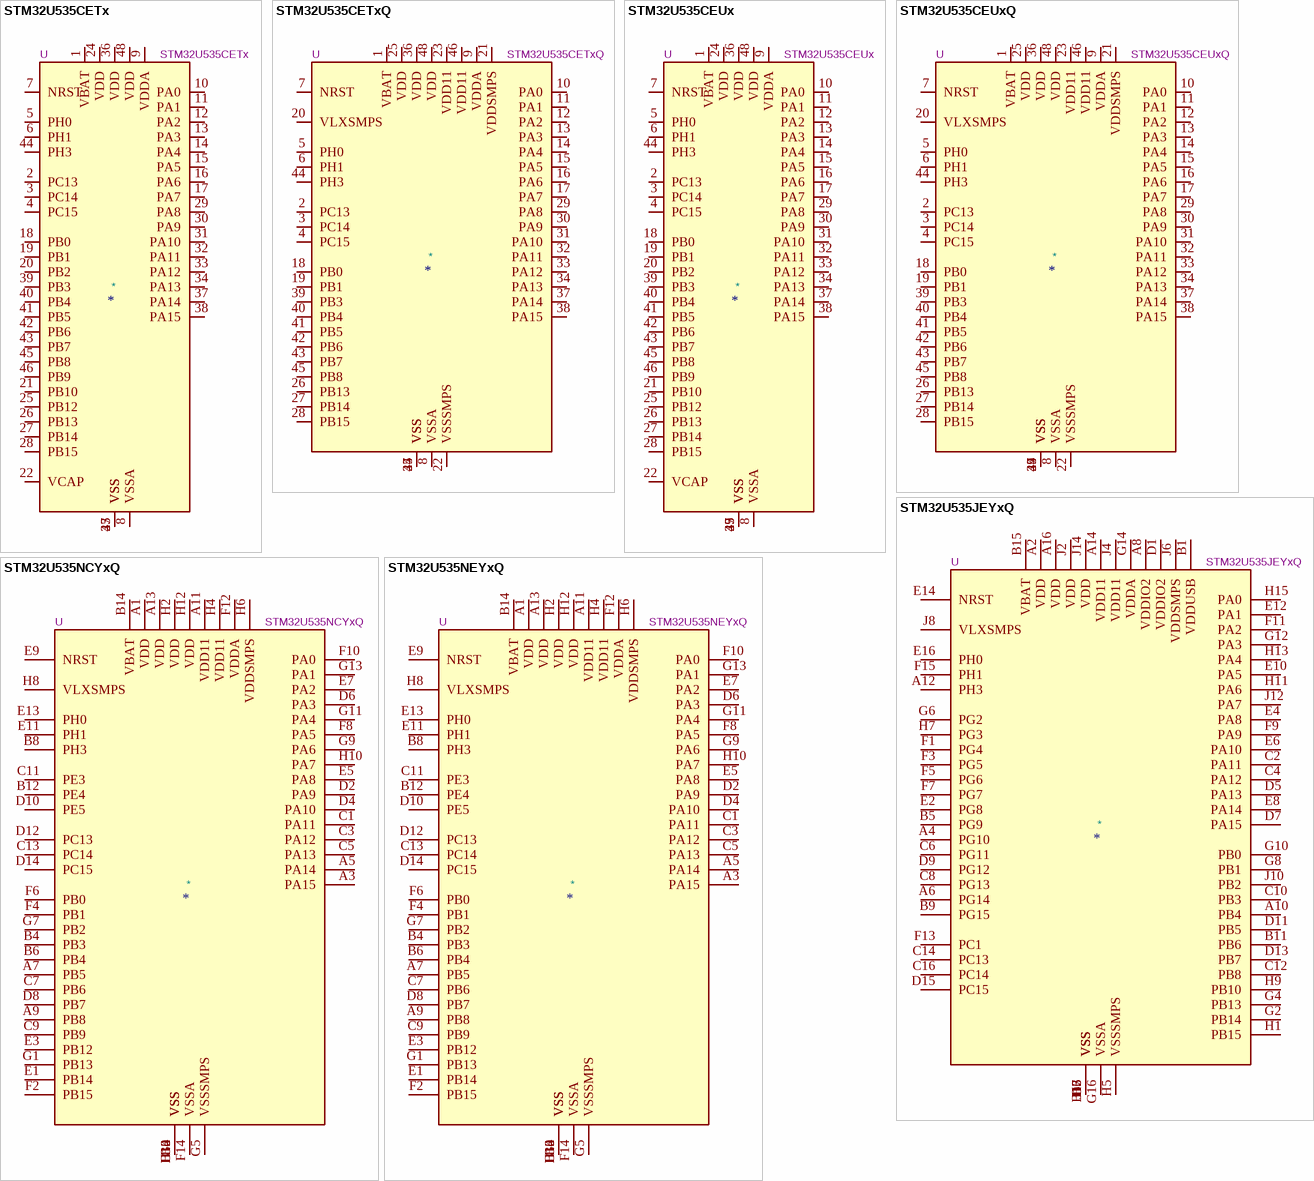
[diagram p13: symbols STM32U535CETx to STM32U535NEYxQ]

## STM32U535CETx
designator *  value STM32U535CETx  Reference: U
STMicroelectronics Arm Cortex-M33 MCU, 512KB flash, 274KB RAM, 37 GPIO, LQFP48; ki_keywords: Arm Cortex-M33 STM32U5 STM32U5x5; ki_fp_filters: LQFP*7x7mm*P0.5mm*; Footprint: Package_QFP:LQFP-48_7x7mm_P0.5mm; Datasheet: https://www.st.com/resource/en/datasheet/stm32u535ce.pdf; Description_: STMicroelectronics Arm Cortex-M33 MCU, 512KB flash, 274KB RAM, 37 GPIO, LQFP48
pins: 1 VBAT, 2 PC13, 3 PC14, 4 PC15, 5 PH0, 6 PH1, 7 NRST, 8 VSSA, 9 VDDA, 10 PA0, 11 PA1, 12 PA2, 13 PA3, 14 PA4, 15 PA5, 16 PA6, 17 PA7, 18 PB0, 19 PB1, 20 PB2, 21 PB10, 22 VCAP, 23 VSS, 24 VDD, 25 PB12, 26 PB13, 27 PB14, 28 PB15, 29 PA8, 30 PA9, 31 PA10, 32 PA11, 33 PA12, 34 PA13, 35 VSS, 36 VDD, 37 PA14, 38 PA15, 39 PB3, 40 PB4, 41 PB5, 42 PB6, 43 PB7, 44 PH3, 45 PB8, 46 PB9, 47 VSS, 48 VDD

## STM32U535CETxQ
designator *  value STM32U535CETxQ  Reference: U
STMicroelectronics Arm Cortex-M33 MCU, 512KB flash, 274KB RAM, 33 GPIO, LQFP48; ki_keywords: Arm Cortex-M33 STM32U5 STM32U5x5; ki_fp_filters: LQFP*7x7mm*P0.5mm*; Footprint: Package_QFP:LQFP-48_7x7mm_P0.5mm; Datasheet: https://www.st.com/resource/en/datasheet/stm32u535ce.pdf; Description_: STMicroelectronics Arm Cortex-M33 MCU, 512KB flash, 274KB RAM, 33 GPIO, LQFP48
pins: 1 VBAT, 2 PC13, 3 PC14, 4 PC15, 5 PH0, 6 PH1, 7 NRST, 8 VSSA, 9 VDDA, 10 PA0, 11 PA1, 12 PA2, 13 PA3, 14 PA4, 15 PA5, 16 PA6, 17 PA7, 18 PB0, 19 PB1, 20 VLXSMPS, 21 VDDSMPS, 22 VSSSMPS, 23 VDD11, 24 VSS, 25 VDD, 26 PB13, 27 PB14, 28 PB15, 29 PA8, 30 PA9, 31 PA10, 32 PA11, 33 PA12, 34 PA13, 35 VSS, 36 VDD, 37 PA14, 38 PA15, 39 PB3, 40 PB4, 41 PB5, 42 PB6, 43 PB7, 44 PH3, 45 PB8, 46 VDD11, 47 VSS, 48 VDD

## STM32U535CEUx
designator *  value STM32U535CEUx  Reference: U
STMicroelectronics Arm Cortex-M33 MCU, 512KB flash, 274KB RAM, 37 GPIO, UFQFPN48; ki_keywords: Arm Cortex-M33 STM32U5 STM32U5x5; ki_fp_filters: QFN*1EP*7x7mm*P0.5mm*; Footprint: Package_DFN_QFN:QFN-48-1EP_7x7mm_P0.5mm_EP5.6x5.6mm; Datasheet: https://www.st.com/resource/en/datasheet/stm32u535ce.pdf; Description_: STMicroelectronics Arm Cortex-M33 MCU, 512KB flash, 274KB RAM, 37 GPIO, UFQFPN48
pins: 1 VBAT, 2 PC13, 3 PC14, 4 PC15, 5 PH0, 6 PH1, 7 NRST, 8 VSSA, 9 VDDA, 10 PA0, 11 PA1, 12 PA2, 13 PA3, 14 PA4, 15 PA5, 16 PA6, 17 PA7, 18 PB0, 19 PB1, 20 PB2, 21 PB10, 22 VCAP, 23 VSS, 24 VDD, 25 PB12, 26 PB13, 27 PB14, 28 PB15, 29 PA8, 30 PA9, 31 PA10, 32 PA11, 33 PA12, 34 PA13, 35 VSS, 36 VDD, 37 PA14, 38 PA15, 39 PB3, 40 PB4, 41 PB5, 42 PB6, 43 PB7, 44 PH3, 45 PB8, 46 PB9, 47 VSS, 48 VDD, 49 VSS

## STM32U535CEUxQ
designator *  value STM32U535CEUxQ  Reference: U
STMicroelectronics Arm Cortex-M33 MCU, 512KB flash, 274KB RAM, 33 GPIO, UFQFPN48; ki_keywords: Arm Cortex-M33 STM32U5 STM32U5x5; ki_fp_filters: QFN*1EP*7x7mm*P0.5mm*; Footprint: Package_DFN_QFN:QFN-48-1EP_7x7mm_P0.5mm_EP5.6x5.6mm; Datasheet: https://www.st.com/resource/en/datasheet/stm32u535ce.pdf; Description_: STMicroelectronics Arm Cortex-M33 MCU, 512KB flash, 274KB RAM, 33 GPIO, UFQFPN48
pins: 1 VBAT, 2 PC13, 3 PC14, 4 PC15, 5 PH0, 6 PH1, 7 NRST, 8 VSSA, 9 VDDA, 10 PA0, 11 PA1, 12 PA2, 13 PA3, 14 PA4, 15 PA5, 16 PA6, 17 PA7, 18 PB0, 19 PB1, 20 VLXSMPS, 21 VDDSMPS, 22 VSSSMPS, 23 VDD11, 24 VSS, 25 VDD, 26 PB13, 27 PB14, 28 PB15, 29 PA8, 30 PA9, 31 PA10, 32 PA11, 33 PA12, 34 PA13, 35 VSS, 36 VDD, 37 PA14, 38 PA15, 39 PB3, 40 PB4, 41 PB5, 42 PB6, 43 PB7, 44 PH3, 45 PB8, 46 VDD11, 47 VSS, 48 VDD, 49 VSS

## STM32U535JEYxQ
designator *  value STM32U535JEYxQ  Reference: U
STMicroelectronics Arm Cortex-M33 MCU, 512KB flash, 274KB RAM, 50 GPIO, WLCSP72; ki_keywords: Arm Cortex-M33 STM32U5 STM32U5x5; ki_fp_filters: ST*WLCSP*3.38x3.38mm*Layout16x9*P0.35mm*Stagger*; Footprint: Package_CSP:ST_WLCSP-72_3.38x3.38mm_Layout16x9_P0.35mm_Stagger; Datasheet: https://www.st.com/resource/en/datasheet/stm32u535je.pdf; Description_: STMicroelectronics Arm Cortex-M33 MCU, 512KB flash, 274KB RAM, 50 GPIO, WLCSP72
pins: A2 VDD, A4 PG10, A6 PG14, A8 VDDIO2, A10 PB4, A12 PH3, A14 VDD11, A16 VDD, B1 VDDUSB, B3 VSS, B5 PG9, B7 VSS, B9 PG15, B11 PB6, B13 VSS, B15 VBAT, C2 PA11, C4 PA12, C6 PG11, C8 PG13, C10 PB3, C12 PB8, C14 PC13, C16 PC14, D1 VDDIO2, D3 VSS, D5 PA13, D7 PA15, D9 PG12, D11 PB5, D13 PB7, D15 PC15, E2 PG8, E4 PA8, E6 PA10, E8 PA14, E10 PA5, E12 PA1, E14 NRST, E16 PH0, F1 PG4, F3 PG5, F5 PG6, F7 PG7, F9 PA9, F11 PA2, F13 PC1, F15 PH1, G2 PB14, G4 PB13, G6 PG2, G8 PB1, G10 PB0, G12 PA3, G14 VDDA, G16 VSSA, H1 PB15, H3 VSS, H5 VSSSMPS, H7 PG3, H9 PB10, H11 PA6, H13 PA4, H15 PA0, J2 VDD, J4 VDD11, J6 VDDSMPS, J8 VLXSMPS, J10 PB2, J12 PA7, J14 VDD, J16 VSS

## STM32U535NCYxQ
designator *  value STM32U535NCYxQ  Reference: U
STMicroelectronics Arm Cortex-M33 MCU, 256KB flash, 274KB RAM, 39 GPIO, WLCSP56; ki_keywords: Arm Cortex-M33 STM32U5 STM32U5x5; ki_fp_filters: ST*WLCSP*3.38x3.38mm*Layout14x8*P0.4mm*Stagger*; Footprint: Package_CSP:ST_WLCSP-56_3.38x3.38mm_Layout14x8_P0.4mm_Stagger; Datasheet: https://www.st.com/resource/en/datasheet/stm32u535nc.pdf; Description_: STMicroelectronics Arm Cortex-M33 MCU, 256KB flash, 274KB RAM, 39 GPIO, WLCSP56
pins: A1 VDD, A3 PA15, A5 PA14, A7 PB5, A9 PB8, A11 VDD11, A13 VDD, B2 VSS, B4 PB3, B6 PB4, B8 PH3, B10 VSS, B12 PE4, B14 VBAT, C1 PA11, C3 PA12, C5 PA13, C7 PB6, C9 PB9, C11 PE3, C13 PC14, D2 PA9, D4 PA10, D6 PA3, D8 PB7, D10 PE5, D12 PC13, D14 PC15, E1 PB14, E3 PB12, E5 PA8, E7 PA2, E9 NRST, E11 PH1, E13 PH0, F2 PB15, F4 PB1, F6 PB0, F8 PA5, F10 PA0, F12 VDDA, F14 VSSA, G1 PB13, G3 VSS, G5 VSSSMPS, G7 PB2, G9 PA6, G11 PA4, G13 PA1, H2 VDD, H4 VDD11, H6 VDDSMPS, H8 VLXSMPS, H10 PA7, H12 VDD, H14 VSS

## STM32U535NEYxQ
designator *  value STM32U535NEYxQ  Reference: U
STMicroelectronics Arm Cortex-M33 MCU, 512KB flash, 274KB RAM, 39 GPIO, WLCSP56; ki_keywords: Arm Cortex-M33 STM32U5 STM32U5x5; ki_fp_filters: ST*WLCSP*3.38x3.38mm*Layout14x8*P0.4mm*Stagger*; Footprint: Package_CSP:ST_WLCSP-56_3.38x3.38mm_Layout14x8_P0.4mm_Stagger; Datasheet: https://www.st.com/resource/en/datasheet/stm32u535ne.pdf; Description_: STMicroelectronics Arm Cortex-M33 MCU, 512KB flash, 274KB RAM, 39 GPIO, WLCSP56
pins: A1 VDD, A3 PA15, A5 PA14, A7 PB5, A9 PB8, A11 VDD11, A13 VDD, B2 VSS, B4 PB3, B6 PB4, B8 PH3, B10 VSS, B12 PE4, B14 VBAT, C1 PA11, C3 PA12, C5 PA13, C7 PB6, C9 PB9, C11 PE3, C13 PC14, D2 PA9, D4 PA10, D6 PA3, D8 PB7, D10 PE5, D12 PC13, D14 PC15, E1 PB14, E3 PB12, E5 PA8, E7 PA2, E9 NRST, E11 PH1, E13 PH0, F2 PB15, F4 PB1, F6 PB0, F8 PA5, F10 PA0, F12 VDDA, F14 VSSA, G1 PB13, G3 VSS, G5 VSSSMPS, G7 PB2, G9 PA6, G11 PA4, G13 PA1, H2 VDD, H4 VDD11, H6 VDDSMPS, H8 VLXSMPS, H10 PA7, H12 VDD, H14 VSS

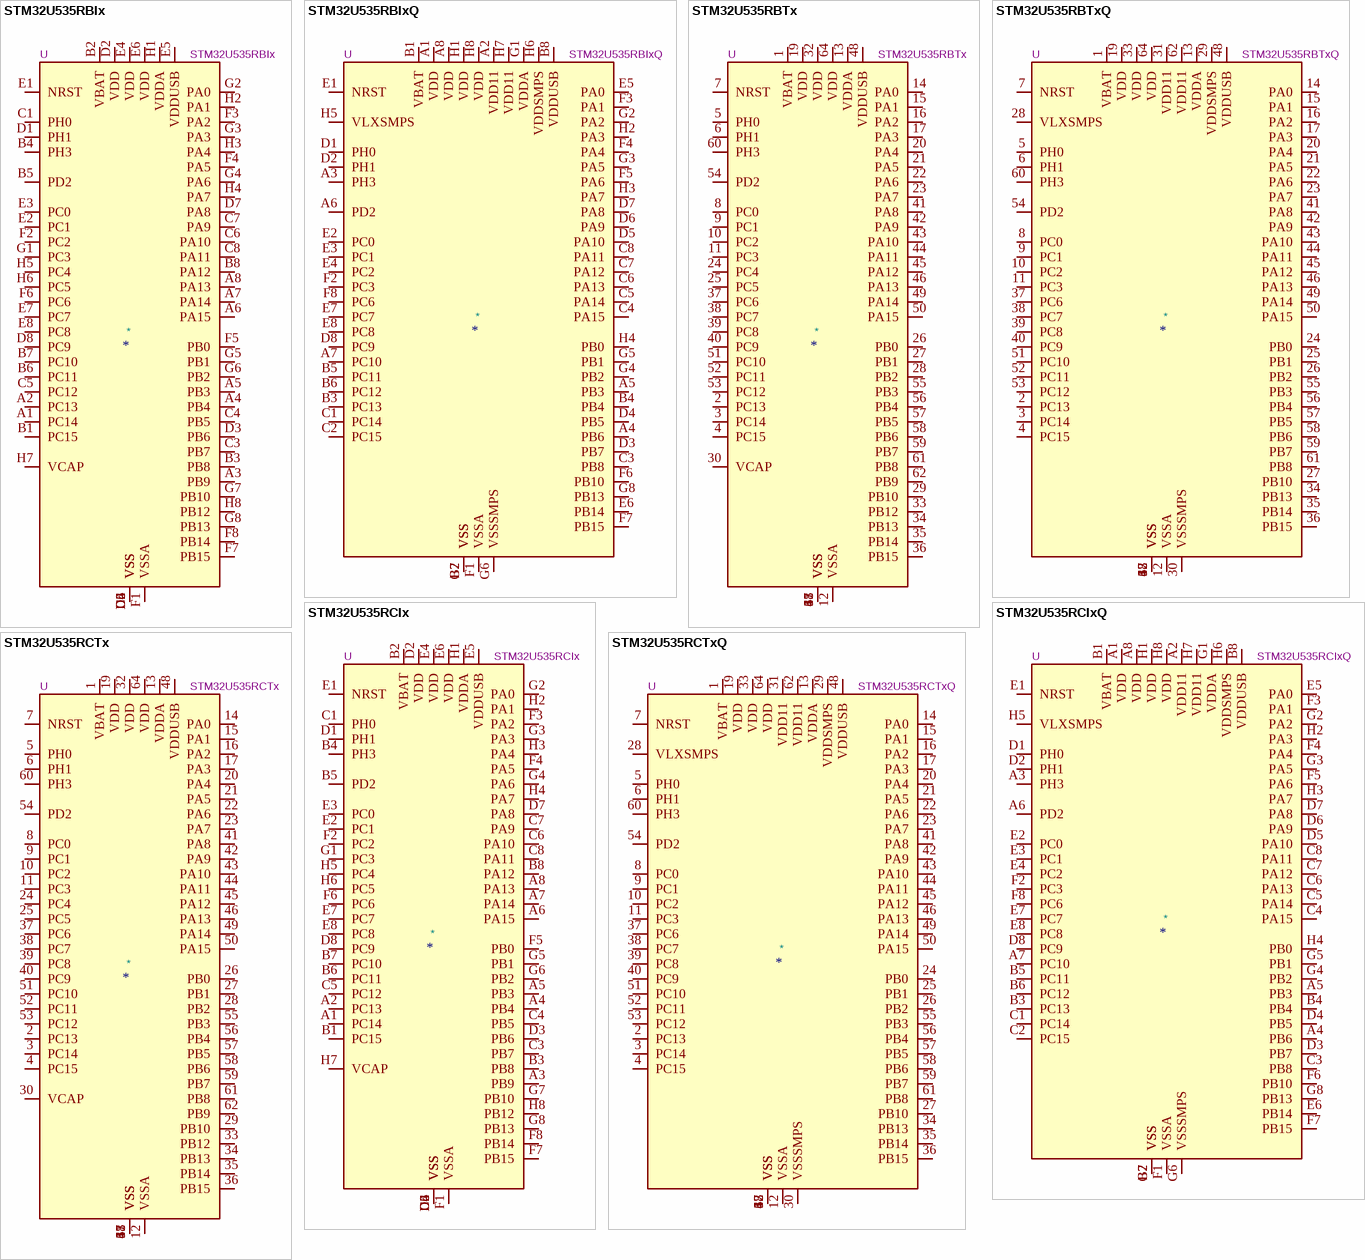
[diagram p14: symbols STM32U535RBIx to STM32U535RCTxQ]

## STM32U535RBIx
designator *  value STM32U535RBIx  Reference: U
STMicroelectronics Arm Cortex-M33 MCU, 128KB flash, 274KB RAM, 51 GPIO, UFBGA64; ki_keywords: Arm Cortex-M33 STM32U5 STM32U5x5; ki_fp_filters: UFBGA*5x5mm*Layout8x8*P0.5mm*; Footprint: Package_BGA:UFBGA-64_5x5mm_Layout8x8_P0.5mm; Datasheet: https://www.st.com/resource/en/datasheet/stm32u535rb.pdf; Description_: STMicroelectronics Arm Cortex-M33 MCU, 128KB flash, 274KB RAM, 51 GPIO, UFBGA64
pins: A1 PC14, A2 PC13, A3 PB9, A4 PB4, A5 PB3, A6 PA15, A7 PA14, A8 PA13, B1 PC15, B2 VBAT, B3 PB8, B4 PH3, B5 PD2, B6 PC11, B7 PC10, B8 PA12, C1 PH0, C2 VSS, C3 PB7, C4 PB5, C5 PC12, C6 PA10, C7 PA9, C8 PA11, D1 PH1, D2 VDD, D3 PB6, D4 VSS, D5 VSS, D6 VSS, D7 PA8, D8 PC9, E1 NRST, E2 PC1, E3 PC0, E4 VDD, E5 VDDUSB, E6 VDD, E7 PC7, E8 PC8, F1 VSSA, F2 PC2, F3 PA2, F4 PA5, F5 PB0, F6 PC6, F7 PB15, F8 PB14, G1 PC3, G2 PA0, G3 PA3, G4 PA6, G5 PB1, G6 PB2, G7 PB10, G8 PB13, H1 VDDA, H2 PA1, H3 PA4, H4 PA7, H5 PC4, H6 PC5, H7 VCAP, H8 PB12

## STM32U535RBIxQ
designator *  value STM32U535RBIxQ  Reference: U
STMicroelectronics Arm Cortex-M33 MCU, 128KB flash, 274KB RAM, 47 GPIO, UFBGA64; ki_keywords: Arm Cortex-M33 STM32U5 STM32U5x5; ki_fp_filters: UFBGA*5x5mm*Layout8x8*P0.5mm*; Footprint: Package_BGA:UFBGA-64_5x5mm_Layout8x8_P0.5mm; Datasheet: https://www.st.com/resource/en/datasheet/stm32u535rb.pdf; Description_: STMicroelectronics Arm Cortex-M33 MCU, 128KB flash, 274KB RAM, 47 GPIO, UFBGA64
pins: A1 VDD, A2 VDD11, A3 PH3, A4 PB6, A5 PB3, A6 PD2, A7 PC10, A8 VDD, B1 VBAT, B2 VSS, B3 PC13, B4 PB4, B5 PC11, B6 PC12, B7 VSS, B8 VDDUSB, C1 PC14, C2 PC15, C3 PB8, C4 PA15, C5 PA14, C6 PA13, C7 PA12, C8 PA11, D1 PH0, D2 PH1, D3 PB7, D4 PB5, D5 PA10, D6 PA9, D7 PA8, D8 PC9, E1 NRST, E2 PC0, E3 PC1, E4 PC2, E5 PA0, E6 PB14, E7 PC7, E8 PC8, F1 VSSA, F2 PC3, F3 PA1, F4 PA4, F5 PA6, F6 PB10, F7 PB15, F8 PC6, G1 VDDA, G2 PA2, G3 PA5, G4 PB2, G5 PB1, G6 VSSSMPS, G7 VSS, G8 PB13, H1 VDD, H2 PA3, H3 PA7, H4 PB0, H5 VLXSMPS, H6 VDDSMPS, H7 VDD11, H8 VDD

## STM32U535RBTx
designator *  value STM32U535RBTx  Reference: U
STMicroelectronics Arm Cortex-M33 MCU, 128KB flash, 274KB RAM, 51 GPIO, LQFP64; ki_keywords: Arm Cortex-M33 STM32U5 STM32U5x5; ki_fp_filters: LQFP*10x10mm*P0.5mm*; Footprint: Package_QFP:LQFP-64_10x10mm_P0.5mm; Datasheet: https://www.st.com/resource/en/datasheet/stm32u535rb.pdf; Description_: STMicroelectronics Arm Cortex-M33 MCU, 128KB flash, 274KB RAM, 51 GPIO, LQFP64
pins: 1 VBAT, 2 PC13, 3 PC14, 4 PC15, 5 PH0, 6 PH1, 7 NRST, 8 PC0, 9 PC1, 10 PC2, 11 PC3, 12 VSSA, 13 VDDA, 14 PA0, 15 PA1, 16 PA2, 17 PA3, 18 VSS, 19 VDD, 20 PA4, 21 PA5, 22 PA6, 23 PA7, 24 PC4, 25 PC5, 26 PB0, 27 PB1, 28 PB2, 29 PB10, 30 VCAP, 31 VSS, 32 VDD, 33 PB12, 34 PB13, 35 PB14, 36 PB15, 37 PC6, 38 PC7, 39 PC8, 40 PC9, 41 PA8, 42 PA9, 43 PA10, 44 PA11, 45 PA12, 46 PA13, 47 VSS, 48 VDDUSB, 49 PA14, 50 PA15, 51 PC10, 52 PC11, 53 PC12, 54 PD2, 55 PB3, 56 PB4, 57 PB5, 58 PB6, 59 PB7, 60 PH3, 61 PB8, 62 PB9, 63 VSS, 64 VDD

## STM32U535RBTxQ
designator *  value STM32U535RBTxQ  Reference: U
STMicroelectronics Arm Cortex-M33 MCU, 128KB flash, 274KB RAM, 47 GPIO, LQFP64; ki_keywords: Arm Cortex-M33 STM32U5 STM32U5x5; ki_fp_filters: LQFP*10x10mm*P0.5mm*; Footprint: Package_QFP:LQFP-64_10x10mm_P0.5mm; Datasheet: https://www.st.com/resource/en/datasheet/stm32u535rb.pdf; Description_: STMicroelectronics Arm Cortex-M33 MCU, 128KB flash, 274KB RAM, 47 GPIO, LQFP64
pins: 1 VBAT, 2 PC13, 3 PC14, 4 PC15, 5 PH0, 6 PH1, 7 NRST, 8 PC0, 9 PC1, 10 PC2, 11 PC3, 12 VSSA, 13 VDDA, 14 PA0, 15 PA1, 16 PA2, 17 PA3, 18 VSS, 19 VDD, 20 PA4, 21 PA5, 22 PA6, 23 PA7, 24 PB0, 25 PB1, 26 PB2, 27 PB10, 28 VLXSMPS, 29 VDDSMPS, 30 VSSSMPS, 31 VDD11, 32 VSS, 33 VDD, 34 PB13, 35 PB14, 36 PB15, 37 PC6, 38 PC7, 39 PC8, 40 PC9, 41 PA8, 42 PA9, 43 PA10, 44 PA11, 45 PA12, 46 PA13, 47 VSS, 48 VDDUSB, 49 PA14, 50 PA15, 51 PC10, 52 PC11, 53 PC12, 54 PD2, 55 PB3, 56 PB4, 57 PB5, 58 PB6, 59 PB7, 60 PH3, 61 PB8, 62 VDD11, 63 VSS, 64 VDD

## STM32U535RCIx
designator *  value STM32U535RCIx  Reference: U
STMicroelectronics Arm Cortex-M33 MCU, 256KB flash, 274KB RAM, 51 GPIO, UFBGA64; ki_keywords: Arm Cortex-M33 STM32U5 STM32U5x5; ki_fp_filters: UFBGA*5x5mm*Layout8x8*P0.5mm*; Footprint: Package_BGA:UFBGA-64_5x5mm_Layout8x8_P0.5mm; Datasheet: https://www.st.com/resource/en/datasheet/stm32u535rc.pdf; Description_: STMicroelectronics Arm Cortex-M33 MCU, 256KB flash, 274KB RAM, 51 GPIO, UFBGA64
pins: A1 PC14, A2 PC13, A3 PB9, A4 PB4, A5 PB3, A6 PA15, A7 PA14, A8 PA13, B1 PC15, B2 VBAT, B3 PB8, B4 PH3, B5 PD2, B6 PC11, B7 PC10, B8 PA12, C1 PH0, C2 VSS, C3 PB7, C4 PB5, C5 PC12, C6 PA10, C7 PA9, C8 PA11, D1 PH1, D2 VDD, D3 PB6, D4 VSS, D5 VSS, D6 VSS, D7 PA8, D8 PC9, E1 NRST, E2 PC1, E3 PC0, E4 VDD, E5 VDDUSB, E6 VDD, E7 PC7, E8 PC8, F1 VSSA, F2 PC2, F3 PA2, F4 PA5, F5 PB0, F6 PC6, F7 PB15, F8 PB14, G1 PC3, G2 PA0, G3 PA3, G4 PA6, G5 PB1, G6 PB2, G7 PB10, G8 PB13, H1 VDDA, H2 PA1, H3 PA4, H4 PA7, H5 PC4, H6 PC5, H7 VCAP, H8 PB12

## STM32U535RCIxQ
designator *  value STM32U535RCIxQ  Reference: U
STMicroelectronics Arm Cortex-M33 MCU, 256KB flash, 274KB RAM, 47 GPIO, UFBGA64; ki_keywords: Arm Cortex-M33 STM32U5 STM32U5x5; ki_fp_filters: UFBGA*5x5mm*Layout8x8*P0.5mm*; Footprint: Package_BGA:UFBGA-64_5x5mm_Layout8x8_P0.5mm; Datasheet: https://www.st.com/resource/en/datasheet/stm32u535rc.pdf; Description_: STMicroelectronics Arm Cortex-M33 MCU, 256KB flash, 274KB RAM, 47 GPIO, UFBGA64
pins: A1 VDD, A2 VDD11, A3 PH3, A4 PB6, A5 PB3, A6 PD2, A7 PC10, A8 VDD, B1 VBAT, B2 VSS, B3 PC13, B4 PB4, B5 PC11, B6 PC12, B7 VSS, B8 VDDUSB, C1 PC14, C2 PC15, C3 PB8, C4 PA15, C5 PA14, C6 PA13, C7 PA12, C8 PA11, D1 PH0, D2 PH1, D3 PB7, D4 PB5, D5 PA10, D6 PA9, D7 PA8, D8 PC9, E1 NRST, E2 PC0, E3 PC1, E4 PC2, E5 PA0, E6 PB14, E7 PC7, E8 PC8, F1 VSSA, F2 PC3, F3 PA1, F4 PA4, F5 PA6, F6 PB10, F7 PB15, F8 PC6, G1 VDDA, G2 PA2, G3 PA5, G4 PB2, G5 PB1, G6 VSSSMPS, G7 VSS, G8 PB13, H1 VDD, H2 PA3, H3 PA7, H4 PB0, H5 VLXSMPS, H6 VDDSMPS, H7 VDD11, H8 VDD

## STM32U535RCTx
designator *  value STM32U535RCTx  Reference: U
STMicroelectronics Arm Cortex-M33 MCU, 256KB flash, 274KB RAM, 51 GPIO, LQFP64; ki_keywords: Arm Cortex-M33 STM32U5 STM32U5x5; ki_fp_filters: LQFP*10x10mm*P0.5mm*; Footprint: Package_QFP:LQFP-64_10x10mm_P0.5mm; Datasheet: https://www.st.com/resource/en/datasheet/stm32u535rc.pdf; Description_: STMicroelectronics Arm Cortex-M33 MCU, 256KB flash, 274KB RAM, 51 GPIO, LQFP64
pins: 1 VBAT, 2 PC13, 3 PC14, 4 PC15, 5 PH0, 6 PH1, 7 NRST, 8 PC0, 9 PC1, 10 PC2, 11 PC3, 12 VSSA, 13 VDDA, 14 PA0, 15 PA1, 16 PA2, 17 PA3, 18 VSS, 19 VDD, 20 PA4, 21 PA5, 22 PA6, 23 PA7, 24 PC4, 25 PC5, 26 PB0, 27 PB1, 28 PB2, 29 PB10, 30 VCAP, 31 VSS, 32 VDD, 33 PB12, 34 PB13, 35 PB14, 36 PB15, 37 PC6, 38 PC7, 39 PC8, 40 PC9, 41 PA8, 42 PA9, 43 PA10, 44 PA11, 45 PA12, 46 PA13, 47 VSS, 48 VDDUSB, 49 PA14, 50 PA15, 51 PC10, 52 PC11, 53 PC12, 54 PD2, 55 PB3, 56 PB4, 57 PB5, 58 PB6, 59 PB7, 60 PH3, 61 PB8, 62 PB9, 63 VSS, 64 VDD

## STM32U535RCTxQ
designator *  value STM32U535RCTxQ  Reference: U
STMicroelectronics Arm Cortex-M33 MCU, 256KB flash, 274KB RAM, 47 GPIO, LQFP64; ki_keywords: Arm Cortex-M33 STM32U5 STM32U5x5; ki_fp_filters: LQFP*10x10mm*P0.5mm*; Footprint: Package_QFP:LQFP-64_10x10mm_P0.5mm; Datasheet: https://www.st.com/resource/en/datasheet/stm32u535rc.pdf; Description_: STMicroelectronics Arm Cortex-M33 MCU, 256KB flash, 274KB RAM, 47 GPIO, LQFP64
pins: 1 VBAT, 2 PC13, 3 PC14, 4 PC15, 5 PH0, 6 PH1, 7 NRST, 8 PC0, 9 PC1, 10 PC2, 11 PC3, 12 VSSA, 13 VDDA, 14 PA0, 15 PA1, 16 PA2, 17 PA3, 18 VSS, 19 VDD, 20 PA4, 21 PA5, 22 PA6, 23 PA7, 24 PB0, 25 PB1, 26 PB2, 27 PB10, 28 VLXSMPS, 29 VDDSMPS, 30 VSSSMPS, 31 VDD11, 32 VSS, 33 VDD, 34 PB13, 35 PB14, 36 PB15, 37 PC6, 38 PC7, 39 PC8, 40 PC9, 41 PA8, 42 PA9, 43 PA10, 44 PA11, 45 PA12, 46 PA13, 47 VSS, 48 VDDUSB, 49 PA14, 50 PA15, 51 PC10, 52 PC11, 53 PC12, 54 PD2, 55 PB3, 56 PB4, 57 PB5, 58 PB6, 59 PB7, 60 PH3, 61 PB8, 62 VDD11, 63 VSS, 64 VDD

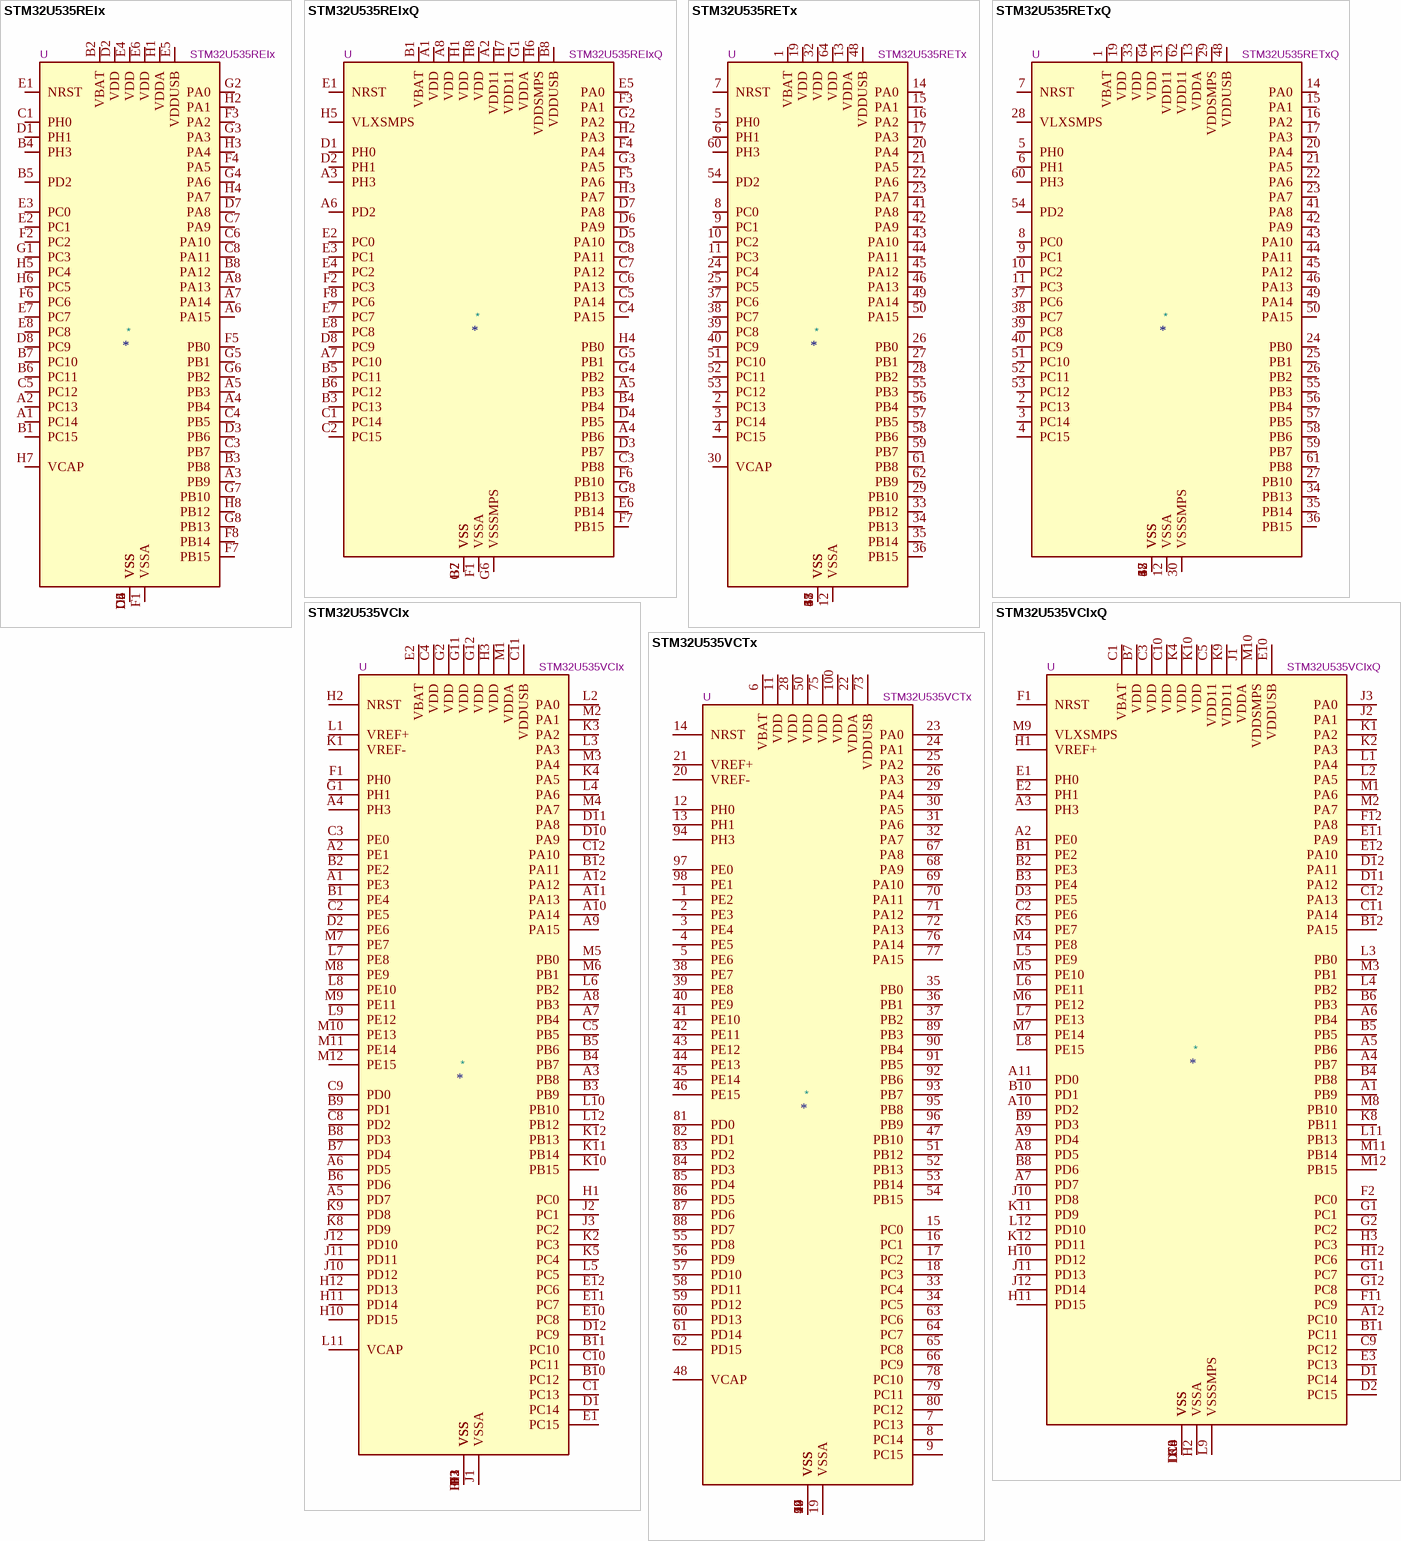
[diagram p15: symbols STM32U535REIx to STM32U535VCTx]

## STM32U535REIx
designator *  value STM32U535REIx  Reference: U
STMicroelectronics Arm Cortex-M33 MCU, 512KB flash, 274KB RAM, 51 GPIO, UFBGA64; ki_keywords: Arm Cortex-M33 STM32U5 STM32U5x5; ki_fp_filters: UFBGA*5x5mm*Layout8x8*P0.5mm*; Footprint: Package_BGA:UFBGA-64_5x5mm_Layout8x8_P0.5mm; Datasheet: https://www.st.com/resource/en/datasheet/stm32u535re.pdf; Description_: STMicroelectronics Arm Cortex-M33 MCU, 512KB flash, 274KB RAM, 51 GPIO, UFBGA64
pins: A1 PC14, A2 PC13, A3 PB9, A4 PB4, A5 PB3, A6 PA15, A7 PA14, A8 PA13, B1 PC15, B2 VBAT, B3 PB8, B4 PH3, B5 PD2, B6 PC11, B7 PC10, B8 PA12, C1 PH0, C2 VSS, C3 PB7, C4 PB5, C5 PC12, C6 PA10, C7 PA9, C8 PA11, D1 PH1, D2 VDD, D3 PB6, D4 VSS, D5 VSS, D6 VSS, D7 PA8, D8 PC9, E1 NRST, E2 PC1, E3 PC0, E4 VDD, E5 VDDUSB, E6 VDD, E7 PC7, E8 PC8, F1 VSSA, F2 PC2, F3 PA2, F4 PA5, F5 PB0, F6 PC6, F7 PB15, F8 PB14, G1 PC3, G2 PA0, G3 PA3, G4 PA6, G5 PB1, G6 PB2, G7 PB10, G8 PB13, H1 VDDA, H2 PA1, H3 PA4, H4 PA7, H5 PC4, H6 PC5, H7 VCAP, H8 PB12

## STM32U535REIxQ
designator *  value STM32U535REIxQ  Reference: U
STMicroelectronics Arm Cortex-M33 MCU, 512KB flash, 274KB RAM, 47 GPIO, UFBGA64; ki_keywords: Arm Cortex-M33 STM32U5 STM32U5x5; ki_fp_filters: UFBGA*5x5mm*Layout8x8*P0.5mm*; Footprint: Package_BGA:UFBGA-64_5x5mm_Layout8x8_P0.5mm; Datasheet: https://www.st.com/resource/en/datasheet/stm32u535re.pdf; Description_: STMicroelectronics Arm Cortex-M33 MCU, 512KB flash, 274KB RAM, 47 GPIO, UFBGA64
pins: A1 VDD, A2 VDD11, A3 PH3, A4 PB6, A5 PB3, A6 PD2, A7 PC10, A8 VDD, B1 VBAT, B2 VSS, B3 PC13, B4 PB4, B5 PC11, B6 PC12, B7 VSS, B8 VDDUSB, C1 PC14, C2 PC15, C3 PB8, C4 PA15, C5 PA14, C6 PA13, C7 PA12, C8 PA11, D1 PH0, D2 PH1, D3 PB7, D4 PB5, D5 PA10, D6 PA9, D7 PA8, D8 PC9, E1 NRST, E2 PC0, E3 PC1, E4 PC2, E5 PA0, E6 PB14, E7 PC7, E8 PC8, F1 VSSA, F2 PC3, F3 PA1, F4 PA4, F5 PA6, F6 PB10, F7 PB15, F8 PC6, G1 VDDA, G2 PA2, G3 PA5, G4 PB2, G5 PB1, G6 VSSSMPS, G7 VSS, G8 PB13, H1 VDD, H2 PA3, H3 PA7, H4 PB0, H5 VLXSMPS, H6 VDDSMPS, H7 VDD11, H8 VDD

## STM32U535RETx
designator *  value STM32U535RETx  Reference: U
STMicroelectronics Arm Cortex-M33 MCU, 512KB flash, 274KB RAM, 51 GPIO, LQFP64; ki_keywords: Arm Cortex-M33 STM32U5 STM32U5x5; ki_fp_filters: LQFP*10x10mm*P0.5mm*; Footprint: Package_QFP:LQFP-64_10x10mm_P0.5mm; Datasheet: https://www.st.com/resource/en/datasheet/stm32u535re.pdf; Description_: STMicroelectronics Arm Cortex-M33 MCU, 512KB flash, 274KB RAM, 51 GPIO, LQFP64
pins: 1 VBAT, 2 PC13, 3 PC14, 4 PC15, 5 PH0, 6 PH1, 7 NRST, 8 PC0, 9 PC1, 10 PC2, 11 PC3, 12 VSSA, 13 VDDA, 14 PA0, 15 PA1, 16 PA2, 17 PA3, 18 VSS, 19 VDD, 20 PA4, 21 PA5, 22 PA6, 23 PA7, 24 PC4, 25 PC5, 26 PB0, 27 PB1, 28 PB2, 29 PB10, 30 VCAP, 31 VSS, 32 VDD, 33 PB12, 34 PB13, 35 PB14, 36 PB15, 37 PC6, 38 PC7, 39 PC8, 40 PC9, 41 PA8, 42 PA9, 43 PA10, 44 PA11, 45 PA12, 46 PA13, 47 VSS, 48 VDDUSB, 49 PA14, 50 PA15, 51 PC10, 52 PC11, 53 PC12, 54 PD2, 55 PB3, 56 PB4, 57 PB5, 58 PB6, 59 PB7, 60 PH3, 61 PB8, 62 PB9, 63 VSS, 64 VDD

## STM32U535RETxQ
designator *  value STM32U535RETxQ  Reference: U
STMicroelectronics Arm Cortex-M33 MCU, 512KB flash, 274KB RAM, 47 GPIO, LQFP64; ki_keywords: Arm Cortex-M33 STM32U5 STM32U5x5; ki_fp_filters: LQFP*10x10mm*P0.5mm*; Footprint: Package_QFP:LQFP-64_10x10mm_P0.5mm; Datasheet: https://www.st.com/resource/en/datasheet/stm32u535re.pdf; Description_: STMicroelectronics Arm Cortex-M33 MCU, 512KB flash, 274KB RAM, 47 GPIO, LQFP64
pins: 1 VBAT, 2 PC13, 3 PC14, 4 PC15, 5 PH0, 6 PH1, 7 NRST, 8 PC0, 9 PC1, 10 PC2, 11 PC3, 12 VSSA, 13 VDDA, 14 PA0, 15 PA1, 16 PA2, 17 PA3, 18 VSS, 19 VDD, 20 PA4, 21 PA5, 22 PA6, 23 PA7, 24 PB0, 25 PB1, 26 PB2, 27 PB10, 28 VLXSMPS, 29 VDDSMPS, 30 VSSSMPS, 31 VDD11, 32 VSS, 33 VDD, 34 PB13, 35 PB14, 36 PB15, 37 PC6, 38 PC7, 39 PC8, 40 PC9, 41 PA8, 42 PA9, 43 PA10, 44 PA11, 45 PA12, 46 PA13, 47 VSS, 48 VDDUSB, 49 PA14, 50 PA15, 51 PC10, 52 PC11, 53 PC12, 54 PD2, 55 PB3, 56 PB4, 57 PB5, 58 PB6, 59 PB7, 60 PH3, 61 PB8, 62 VDD11, 63 VSS, 64 VDD

## STM32U535VCIx
designator *  value STM32U535VCIx  Reference: U
STMicroelectronics Arm Cortex-M33 MCU, 256KB flash, 274KB RAM, 82 GPIO, UFBGA100; ki_keywords: Arm Cortex-M33 STM32U5 STM32U5x5; ki_fp_filters: UFBGA*7x7mm*Layout12x12*P0.5mm*; Footprint: Package_BGA:UFBGA-100_7x7mm_Layout12x12_P0.5mm; Datasheet: https://www.st.com/resource/en/datasheet/stm32u535vc.pdf; Description_: STMicroelectronics Arm Cortex-M33 MCU, 256KB flash, 274KB RAM, 82 GPIO, UFBGA100
pins: A1 PE3, A2 PE1, A3 PB8, A4 PH3, A5 PD7, A6 PD5, A7 PB4, A8 PB3, A9 PA15, A10 PA14, A11 PA13, A12 PA12, B1 PE4, B2 PE2, B3 PB9, B4 PB7, B5 PB6, B6 PD6, B7 PD4, B8 PD3, B9 PD1, B10 PC12, B11 PC10, B12 PA11, C1 PC13, C2 PE5, C3 PE0, C4 VDD, C5 PB5, C8 PD2, C9 PD0, C10 PC11, C11 VDDUSB, C12 PA10, D1 PC14, D2 PE6, D3 VSS, D10 PA9, D11 PA8, D12 PC9, E1 PC15, E2 VBAT, E3 VSS, E10 PC8, E11 PC7, E12 PC6, F1 PH0, F2 VSS, F11 VSS, F12 VSS, G1 PH1, G2 VDD, G11 VDD, G12 VDD, H1 PC0, H2 NRST, H3 VDD, H10 PD15, H11 PD14, H12 PD13, J1 VSSA, J2 PC1, J3 PC2, J10 PD12, J11 PD11, J12 PD10, K1 VREF-, K2 PC3, K3 PA2, K4 PA5, K5 PC4, K8 PD9, K9 PD8, K10 PB15, K11 PB14, K12 PB13, L1 VREF+, L2 PA0, L3 PA3, L4 PA6, L5 PC5, L6 PB2, L7 PE8, L8 PE10, L9 PE12, L10 PB10, L11 VCAP, L12 PB12, M1 VDDA, M2 PA1, M3 PA4, M4 PA7, M5 PB0, M6 PB1, M7 PE7, M8 PE9, M9 PE11, M10 PE13, M11 PE14, M12 PE15

## STM32U535VCIxQ
designator *  value STM32U535VCIxQ  Reference: U
STMicroelectronics Arm Cortex-M33 MCU, 256KB flash, 274KB RAM, 79 GPIO, UFBGA100; ki_keywords: Arm Cortex-M33 STM32U5 STM32U5x5; ki_fp_filters: UFBGA*7x7mm*Layout12x12*P0.5mm*; Footprint: Package_BGA:UFBGA-100_7x7mm_Layout12x12_P0.5mm; Datasheet: https://www.st.com/resource/en/datasheet/stm32u535vc.pdf; Description_: STMicroelectronics Arm Cortex-M33 MCU, 256KB flash, 274KB RAM, 79 GPIO, UFBGA100
pins: A1 PB9, A2 PE0, A3 PH3, A4 PB7, A5 PB6, A6 PB4, A7 PD7, A8 PD5, A9 PD4, A10 PD2, A11 PD0, A12 PC10, B1 PE2, B2 PE3, B3 PE4, B4 PB8, B5 PB5, B6 PB3, B7 VDD, B8 PD6, B9 PD3, B10 PD1, B11 PC11, B12 PA15, C1 VBAT, C2 PE6, C3 VDD, C4 VSS, C5 VDD11, C8 VSS, C9 PC12, C10 VDD, C11 PA14, C12 PA13, D1 PC14, D2 PC15, D3 PE5, D10 VSS, D11 PA12, D12 PA11, E1 PH0, E2 PH1, E3 PC13, E10 VDDUSB, E11 PA9, E12 PA10, F1 NRST, F2 PC0, F11 PC9, F12 PA8, G1 PC1, G2 PC2, G11 PC7, G12 PC8, H1 VREF+, H2 VSSA, H3 PC3, H10 PD12, H11 PD15, H12 PC6, J1 VDDA, J2 PA1, J3 PA0, J10 PD8, J11 PD13, J12 PD14, K1 PA2, K2 PA3, K3 VSS, K4 VDD, K5 PE7, K8 PB11, K9 VDD11, K10 VDD, K11 PD9, K12 PD11, L1 PA4, L2 PA5, L3 PB0, L4 PB2, L5 PE9, L6 PE11, L7 PE13, L8 PE15, L9 VSSSMPS, L10 VSS, L11 PB13, L12 PD10, M1 PA6, M2 PA7, M3 PB1, M4 PE8, M5 PE10, M6 PE12, M7 PE14, M8 PB10, M9 VLXSMPS, M10 VDDSMPS, M11 PB14, M12 PB15

## STM32U535VCTx
designator *  value STM32U535VCTx  Reference: U
STMicroelectronics Arm Cortex-M33 MCU, 256KB flash, 274KB RAM, 82 GPIO, LQFP100; ki_keywords: Arm Cortex-M33 STM32U5 STM32U5x5; ki_fp_filters: LQFP*14x14mm*P0.5mm*; Footprint: Package_QFP:LQFP-100_14x14mm_P0.5mm; Datasheet: https://www.st.com/resource/en/datasheet/stm32u535vc.pdf; Description_: STMicroelectronics Arm Cortex-M33 MCU, 256KB flash, 274KB RAM, 82 GPIO, LQFP100
pins: 1 PE2, 2 PE3, 3 PE4, 4 PE5, 5 PE6, 6 VBAT, 7 PC13, 8 PC14, 9 PC15, 10 VSS, 11 VDD, 12 PH0, 13 PH1, 14 NRST, 15 PC0, 16 PC1, 17 PC2, 18 PC3, 19 VSSA, 20 VREF-, 21 VREF+, 22 VDDA, 23 PA0, 24 PA1, 25 PA2, 26 PA3, 27 VSS, 28 VDD, 29 PA4, 30 PA5, 31 PA6, 32 PA7, 33 PC4, 34 PC5, 35 PB0, 36 PB1, 37 PB2, 38 PE7, 39 PE8, 40 PE9, 41 PE10, 42 PE11, 43 PE12, 44 PE13, 45 PE14, 46 PE15, 47 PB10, 48 VCAP, 49 VSS, 50 VDD, 51 PB12, 52 PB13, 53 PB14, 54 PB15, 55 PD8, 56 PD9, 57 PD10, 58 PD11, 59 PD12, 60 PD13, 61 PD14, 62 PD15, 63 PC6, 64 PC7, 65 PC8, 66 PC9, 67 PA8, 68 PA9, 69 PA10, 70 PA11, 71 PA12, 72 PA13, 73 VDDUSB, 74 VSS, 75 VDD, 76 PA14, 77 PA15, 78 PC10, 79 PC11, 80 PC12, 81 PD0, 82 PD1, 83 PD2, 84 PD3, 85 PD4, 86 PD5, 87 PD6, 88 PD7, 89 PB3, 90 PB4, 91 PB5, 92 PB6, 93 PB7, 94 PH3, 95 PB8, 96 PB9, 97 PE0, 98 PE1, 99 VSS, 100 VDD

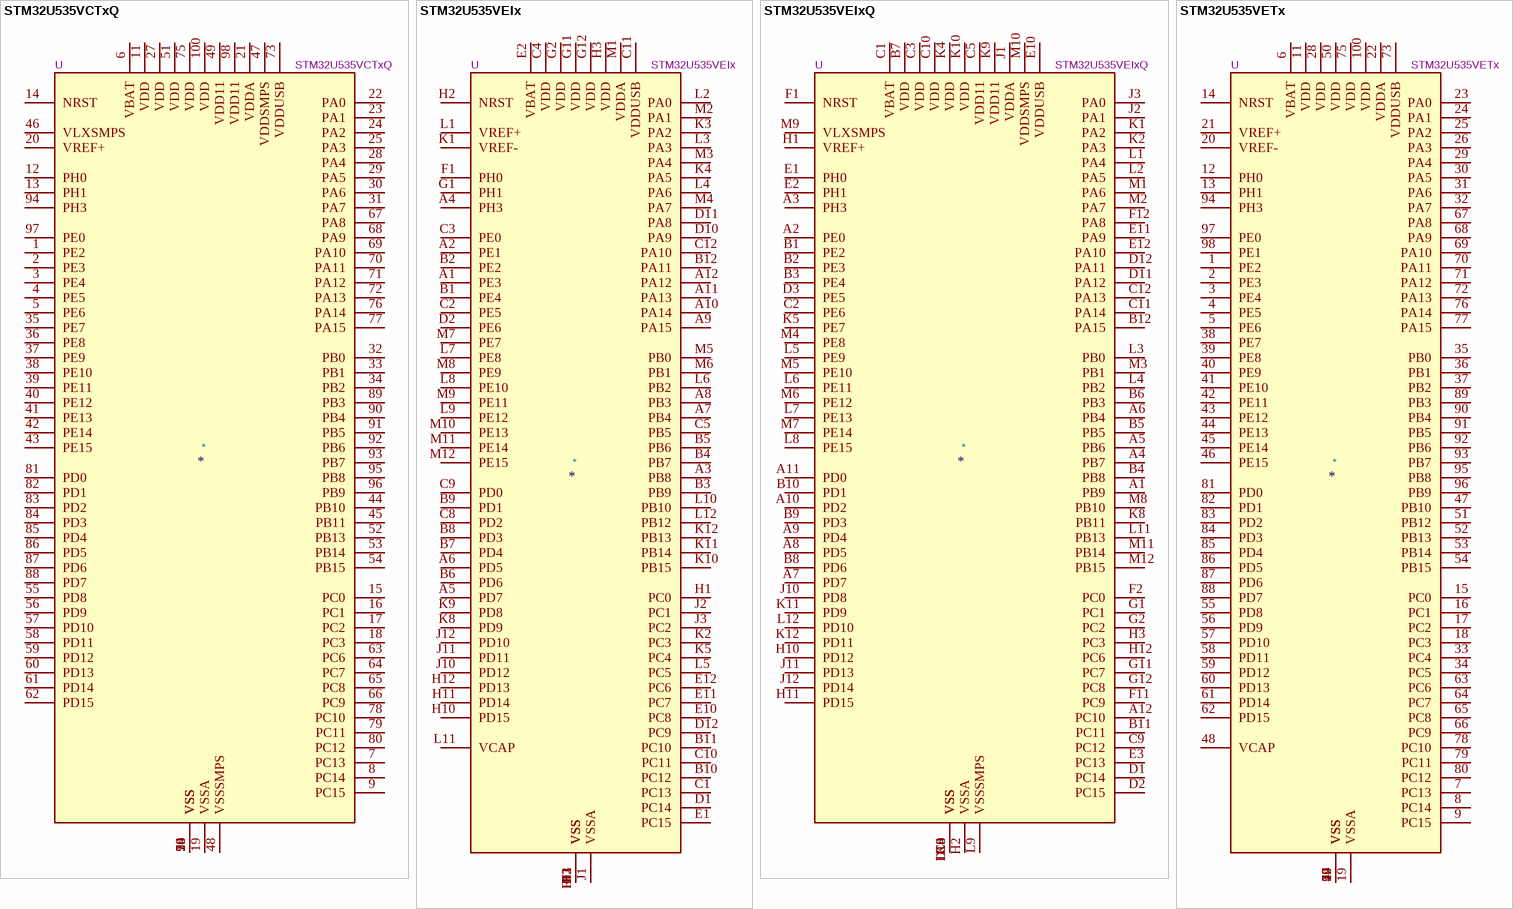
[diagram p16: symbols STM32U535VCTxQ to STM32U535VETx]

## STM32U535VCTxQ
designator *  value STM32U535VCTxQ  Reference: U
STMicroelectronics Arm Cortex-M33 MCU, 256KB flash, 274KB RAM, 79 GPIO, LQFP100; ki_keywords: Arm Cortex-M33 STM32U5 STM32U5x5; ki_fp_filters: LQFP*14x14mm*P0.5mm*; Footprint: Package_QFP:LQFP-100_14x14mm_P0.5mm; Datasheet: https://www.st.com/resource/en/datasheet/stm32u535vc.pdf; Description_: STMicroelectronics Arm Cortex-M33 MCU, 256KB flash, 274KB RAM, 79 GPIO, LQFP100
pins: 1 PE2, 2 PE3, 3 PE4, 4 PE5, 5 PE6, 6 VBAT, 7 PC13, 8 PC14, 9 PC15, 10 VSS, 11 VDD, 12 PH0, 13 PH1, 14 NRST, 15 PC0, 16 PC1, 17 PC2, 18 PC3, 19 VSSA, 20 VREF+, 21 VDDA, 22 PA0, 23 PA1, 24 PA2, 25 PA3, 26 VSS, 27 VDD, 28 PA4, 29 PA5, 30 PA6, 31 PA7, 32 PB0, 33 PB1, 34 PB2, 35 PE7, 36 PE8, 37 PE9, 38 PE10, 39 PE11, 40 PE12, 41 PE13, 42 PE14, 43 PE15, 44 PB10, 45 PB11, 46 VLXSMPS, 47 VDDSMPS, 48 VSSSMPS, 49 VDD11, 50 VSS, 51 VDD, 52 PB13, 53 PB14, 54 PB15, 55 PD8, 56 PD9, 57 PD10, 58 PD11, 59 PD12, 60 PD13, 61 PD14, 62 PD15, 63 PC6, 64 PC7, 65 PC8, 66 PC9, 67 PA8, 68 PA9, 69 PA10, 70 PA11, 71 PA12, 72 PA13, 73 VDDUSB, 74 VSS, 75 VDD, 76 PA14, 77 PA15, 78 PC10, 79 PC11, 80 PC12, 81 PD0, 82 PD1, 83 PD2, 84 PD3, 85 PD4, 86 PD5, 87 PD6, 88 PD7, 89 PB3, 90 PB4, 91 PB5, 92 PB6, 93 PB7, 94 PH3, 95 PB8, 96 PB9, 97 PE0, 98 VDD11, 99 VSS, 100 VDD

## STM32U535VEIx
designator *  value STM32U535VEIx  Reference: U
STMicroelectronics Arm Cortex-M33 MCU, 512KB flash, 274KB RAM, 82 GPIO, UFBGA100; ki_keywords: Arm Cortex-M33 STM32U5 STM32U5x5; ki_fp_filters: UFBGA*7x7mm*Layout12x12*P0.5mm*; Footprint: Package_BGA:UFBGA-100_7x7mm_Layout12x12_P0.5mm; Datasheet: https://www.st.com/resource/en/datasheet/stm32u535ve.pdf; Description_: STMicroelectronics Arm Cortex-M33 MCU, 512KB flash, 274KB RAM, 82 GPIO, UFBGA100
pins: A1 PE3, A2 PE1, A3 PB8, A4 PH3, A5 PD7, A6 PD5, A7 PB4, A8 PB3, A9 PA15, A10 PA14, A11 PA13, A12 PA12, B1 PE4, B2 PE2, B3 PB9, B4 PB7, B5 PB6, B6 PD6, B7 PD4, B8 PD3, B9 PD1, B10 PC12, B11 PC10, B12 PA11, C1 PC13, C2 PE5, C3 PE0, C4 VDD, C5 PB5, C8 PD2, C9 PD0, C10 PC11, C11 VDDUSB, C12 PA10, D1 PC14, D2 PE6, D3 VSS, D10 PA9, D11 PA8, D12 PC9, E1 PC15, E2 VBAT, E3 VSS, E10 PC8, E11 PC7, E12 PC6, F1 PH0, F2 VSS, F11 VSS, F12 VSS, G1 PH1, G2 VDD, G11 VDD, G12 VDD, H1 PC0, H2 NRST, H3 VDD, H10 PD15, H11 PD14, H12 PD13, J1 VSSA, J2 PC1, J3 PC2, J10 PD12, J11 PD11, J12 PD10, K1 VREF-, K2 PC3, K3 PA2, K4 PA5, K5 PC4, K8 PD9, K9 PD8, K10 PB15, K11 PB14, K12 PB13, L1 VREF+, L2 PA0, L3 PA3, L4 PA6, L5 PC5, L6 PB2, L7 PE8, L8 PE10, L9 PE12, L10 PB10, L11 VCAP, L12 PB12, M1 VDDA, M2 PA1, M3 PA4, M4 PA7, M5 PB0, M6 PB1, M7 PE7, M8 PE9, M9 PE11, M10 PE13, M11 PE14, M12 PE15

## STM32U535VEIxQ
designator *  value STM32U535VEIxQ  Reference: U
STMicroelectronics Arm Cortex-M33 MCU, 512KB flash, 274KB RAM, 79 GPIO, UFBGA100; ki_keywords: Arm Cortex-M33 STM32U5 STM32U5x5; ki_fp_filters: UFBGA*7x7mm*Layout12x12*P0.5mm*; Footprint: Package_BGA:UFBGA-100_7x7mm_Layout12x12_P0.5mm; Datasheet: https://www.st.com/resource/en/datasheet/stm32u535ve.pdf; Description_: STMicroelectronics Arm Cortex-M33 MCU, 512KB flash, 274KB RAM, 79 GPIO, UFBGA100
pins: A1 PB9, A2 PE0, A3 PH3, A4 PB7, A5 PB6, A6 PB4, A7 PD7, A8 PD5, A9 PD4, A10 PD2, A11 PD0, A12 PC10, B1 PE2, B2 PE3, B3 PE4, B4 PB8, B5 PB5, B6 PB3, B7 VDD, B8 PD6, B9 PD3, B10 PD1, B11 PC11, B12 PA15, C1 VBAT, C2 PE6, C3 VDD, C4 VSS, C5 VDD11, C8 VSS, C9 PC12, C10 VDD, C11 PA14, C12 PA13, D1 PC14, D2 PC15, D3 PE5, D10 VSS, D11 PA12, D12 PA11, E1 PH0, E2 PH1, E3 PC13, E10 VDDUSB, E11 PA9, E12 PA10, F1 NRST, F2 PC0, F11 PC9, F12 PA8, G1 PC1, G2 PC2, G11 PC7, G12 PC8, H1 VREF+, H2 VSSA, H3 PC3, H10 PD12, H11 PD15, H12 PC6, J1 VDDA, J2 PA1, J3 PA0, J10 PD8, J11 PD13, J12 PD14, K1 PA2, K2 PA3, K3 VSS, K4 VDD, K5 PE7, K8 PB11, K9 VDD11, K10 VDD, K11 PD9, K12 PD11, L1 PA4, L2 PA5, L3 PB0, L4 PB2, L5 PE9, L6 PE11, L7 PE13, L8 PE15, L9 VSSSMPS, L10 VSS, L11 PB13, L12 PD10, M1 PA6, M2 PA7, M3 PB1, M4 PE8, M5 PE10, M6 PE12, M7 PE14, M8 PB10, M9 VLXSMPS, M10 VDDSMPS, M11 PB14, M12 PB15

## STM32U535VETx
designator *  value STM32U535VETx  Reference: U
STMicroelectronics Arm Cortex-M33 MCU, 512KB flash, 274KB RAM, 82 GPIO, LQFP100; ki_keywords: Arm Cortex-M33 STM32U5 STM32U5x5; ki_fp_filters: LQFP*14x14mm*P0.5mm*; Footprint: Package_QFP:LQFP-100_14x14mm_P0.5mm; Datasheet: https://www.st.com/resource/en/datasheet/stm32u535ve.pdf; Description_: STMicroelectronics Arm Cortex-M33 MCU, 512KB flash, 274KB RAM, 82 GPIO, LQFP100
pins: 1 PE2, 2 PE3, 3 PE4, 4 PE5, 5 PE6, 6 VBAT, 7 PC13, 8 PC14, 9 PC15, 10 VSS, 11 VDD, 12 PH0, 13 PH1, 14 NRST, 15 PC0, 16 PC1, 17 PC2, 18 PC3, 19 VSSA, 20 VREF-, 21 VREF+, 22 VDDA, 23 PA0, 24 PA1, 25 PA2, 26 PA3, 27 VSS, 28 VDD, 29 PA4, 30 PA5, 31 PA6, 32 PA7, 33 PC4, 34 PC5, 35 PB0, 36 PB1, 37 PB2, 38 PE7, 39 PE8, 40 PE9, 41 PE10, 42 PE11, 43 PE12, 44 PE13, 45 PE14, 46 PE15, 47 PB10, 48 VCAP, 49 VSS, 50 VDD, 51 PB12, 52 PB13, 53 PB14, 54 PB15, 55 PD8, 56 PD9, 57 PD10, 58 PD11, 59 PD12, 60 PD13, 61 PD14, 62 PD15, 63 PC6, 64 PC7, 65 PC8, 66 PC9, 67 PA8, 68 PA9, 69 PA10, 70 PA11, 71 PA12, 72 PA13, 73 VDDUSB, 74 VSS, 75 VDD, 76 PA14, 77 PA15, 78 PC10, 79 PC11, 80 PC12, 81 PD0, 82 PD1, 83 PD2, 84 PD3, 85 PD4, 86 PD5, 87 PD6, 88 PD7, 89 PB3, 90 PB4, 91 PB5, 92 PB6, 93 PB7, 94 PH3, 95 PB8, 96 PB9, 97 PE0, 98 PE1, 99 VSS, 100 VDD

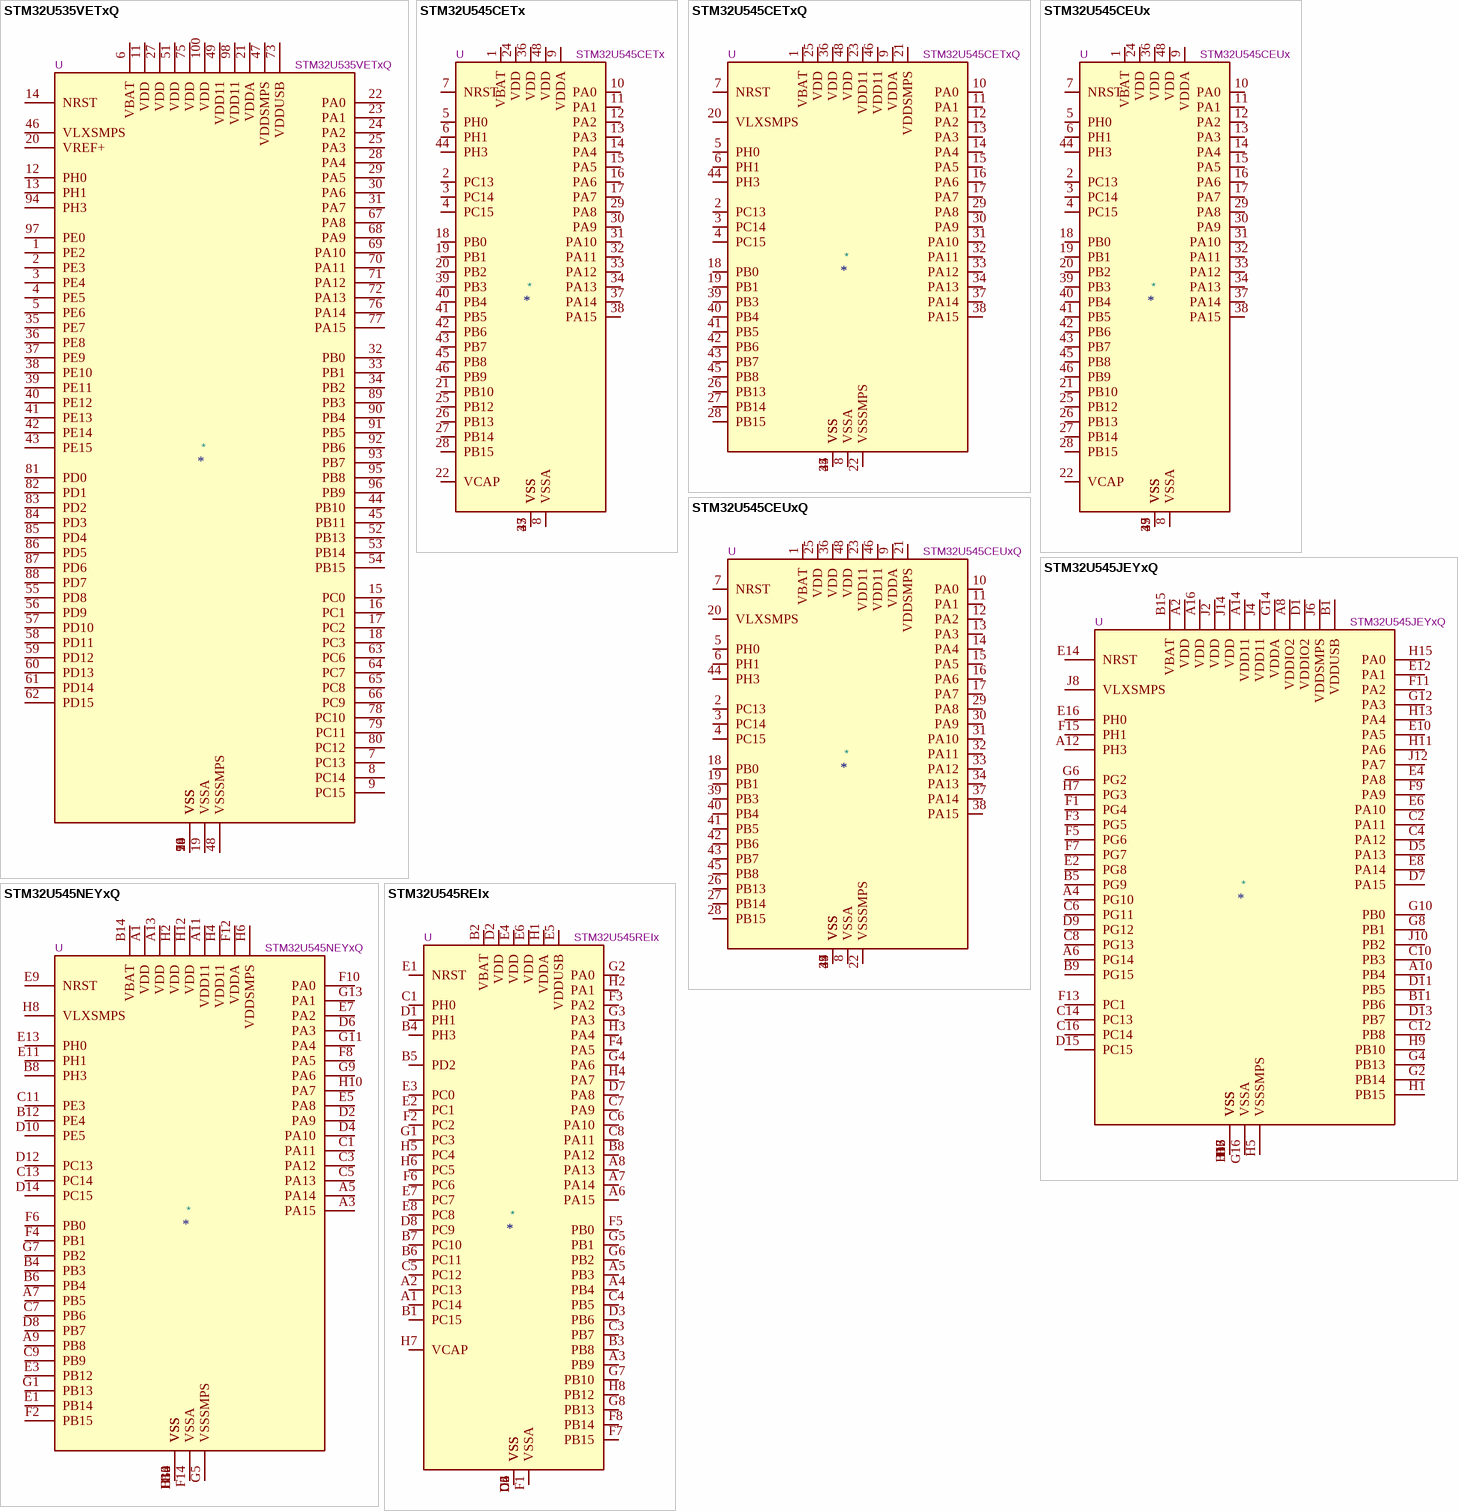
[diagram p17: symbols STM32U535VETxQ to STM32U545REIx]

## STM32U535VETxQ
designator *  value STM32U535VETxQ  Reference: U
STMicroelectronics Arm Cortex-M33 MCU, 512KB flash, 274KB RAM, 79 GPIO, LQFP100; ki_keywords: Arm Cortex-M33 STM32U5 STM32U5x5; ki_fp_filters: LQFP*14x14mm*P0.5mm*; Footprint: Package_QFP:LQFP-100_14x14mm_P0.5mm; Datasheet: https://www.st.com/resource/en/datasheet/stm32u535ve.pdf; Description_: STMicroelectronics Arm Cortex-M33 MCU, 512KB flash, 274KB RAM, 79 GPIO, LQFP100
pins: 1 PE2, 2 PE3, 3 PE4, 4 PE5, 5 PE6, 6 VBAT, 7 PC13, 8 PC14, 9 PC15, 10 VSS, 11 VDD, 12 PH0, 13 PH1, 14 NRST, 15 PC0, 16 PC1, 17 PC2, 18 PC3, 19 VSSA, 20 VREF+, 21 VDDA, 22 PA0, 23 PA1, 24 PA2, 25 PA3, 26 VSS, 27 VDD, 28 PA4, 29 PA5, 30 PA6, 31 PA7, 32 PB0, 33 PB1, 34 PB2, 35 PE7, 36 PE8, 37 PE9, 38 PE10, 39 PE11, 40 PE12, 41 PE13, 42 PE14, 43 PE15, 44 PB10, 45 PB11, 46 VLXSMPS, 47 VDDSMPS, 48 VSSSMPS, 49 VDD11, 50 VSS, 51 VDD, 52 PB13, 53 PB14, 54 PB15, 55 PD8, 56 PD9, 57 PD10, 58 PD11, 59 PD12, 60 PD13, 61 PD14, 62 PD15, 63 PC6, 64 PC7, 65 PC8, 66 PC9, 67 PA8, 68 PA9, 69 PA10, 70 PA11, 71 PA12, 72 PA13, 73 VDDUSB, 74 VSS, 75 VDD, 76 PA14, 77 PA15, 78 PC10, 79 PC11, 80 PC12, 81 PD0, 82 PD1, 83 PD2, 84 PD3, 85 PD4, 86 PD5, 87 PD6, 88 PD7, 89 PB3, 90 PB4, 91 PB5, 92 PB6, 93 PB7, 94 PH3, 95 PB8, 96 PB9, 97 PE0, 98 VDD11, 99 VSS, 100 VDD

## STM32U545CETx
designator *  value STM32U545CETx  Reference: U
STMicroelectronics Arm Cortex-M33 MCU, 512KB flash, 274KB RAM, 37 GPIO, LQFP48; ki_keywords: Arm Cortex-M33 STM32U5 STM32U5x5; ki_fp_filters: LQFP*7x7mm*P0.5mm*; Footprint: Package_QFP:LQFP-48_7x7mm_P0.5mm; Datasheet: https://www.st.com/resource/en/datasheet/stm32u545ce.pdf; Description_: STMicroelectronics Arm Cortex-M33 MCU, 512KB flash, 274KB RAM, 37 GPIO, LQFP48
pins: 1 VBAT, 2 PC13, 3 PC14, 4 PC15, 5 PH0, 6 PH1, 7 NRST, 8 VSSA, 9 VDDA, 10 PA0, 11 PA1, 12 PA2, 13 PA3, 14 PA4, 15 PA5, 16 PA6, 17 PA7, 18 PB0, 19 PB1, 20 PB2, 21 PB10, 22 VCAP, 23 VSS, 24 VDD, 25 PB12, 26 PB13, 27 PB14, 28 PB15, 29 PA8, 30 PA9, 31 PA10, 32 PA11, 33 PA12, 34 PA13, 35 VSS, 36 VDD, 37 PA14, 38 PA15, 39 PB3, 40 PB4, 41 PB5, 42 PB6, 43 PB7, 44 PH3, 45 PB8, 46 PB9, 47 VSS, 48 VDD